# Altium integrated library Maxim Microcontroller.IntLib: 169 symbols (part 5 of 6)
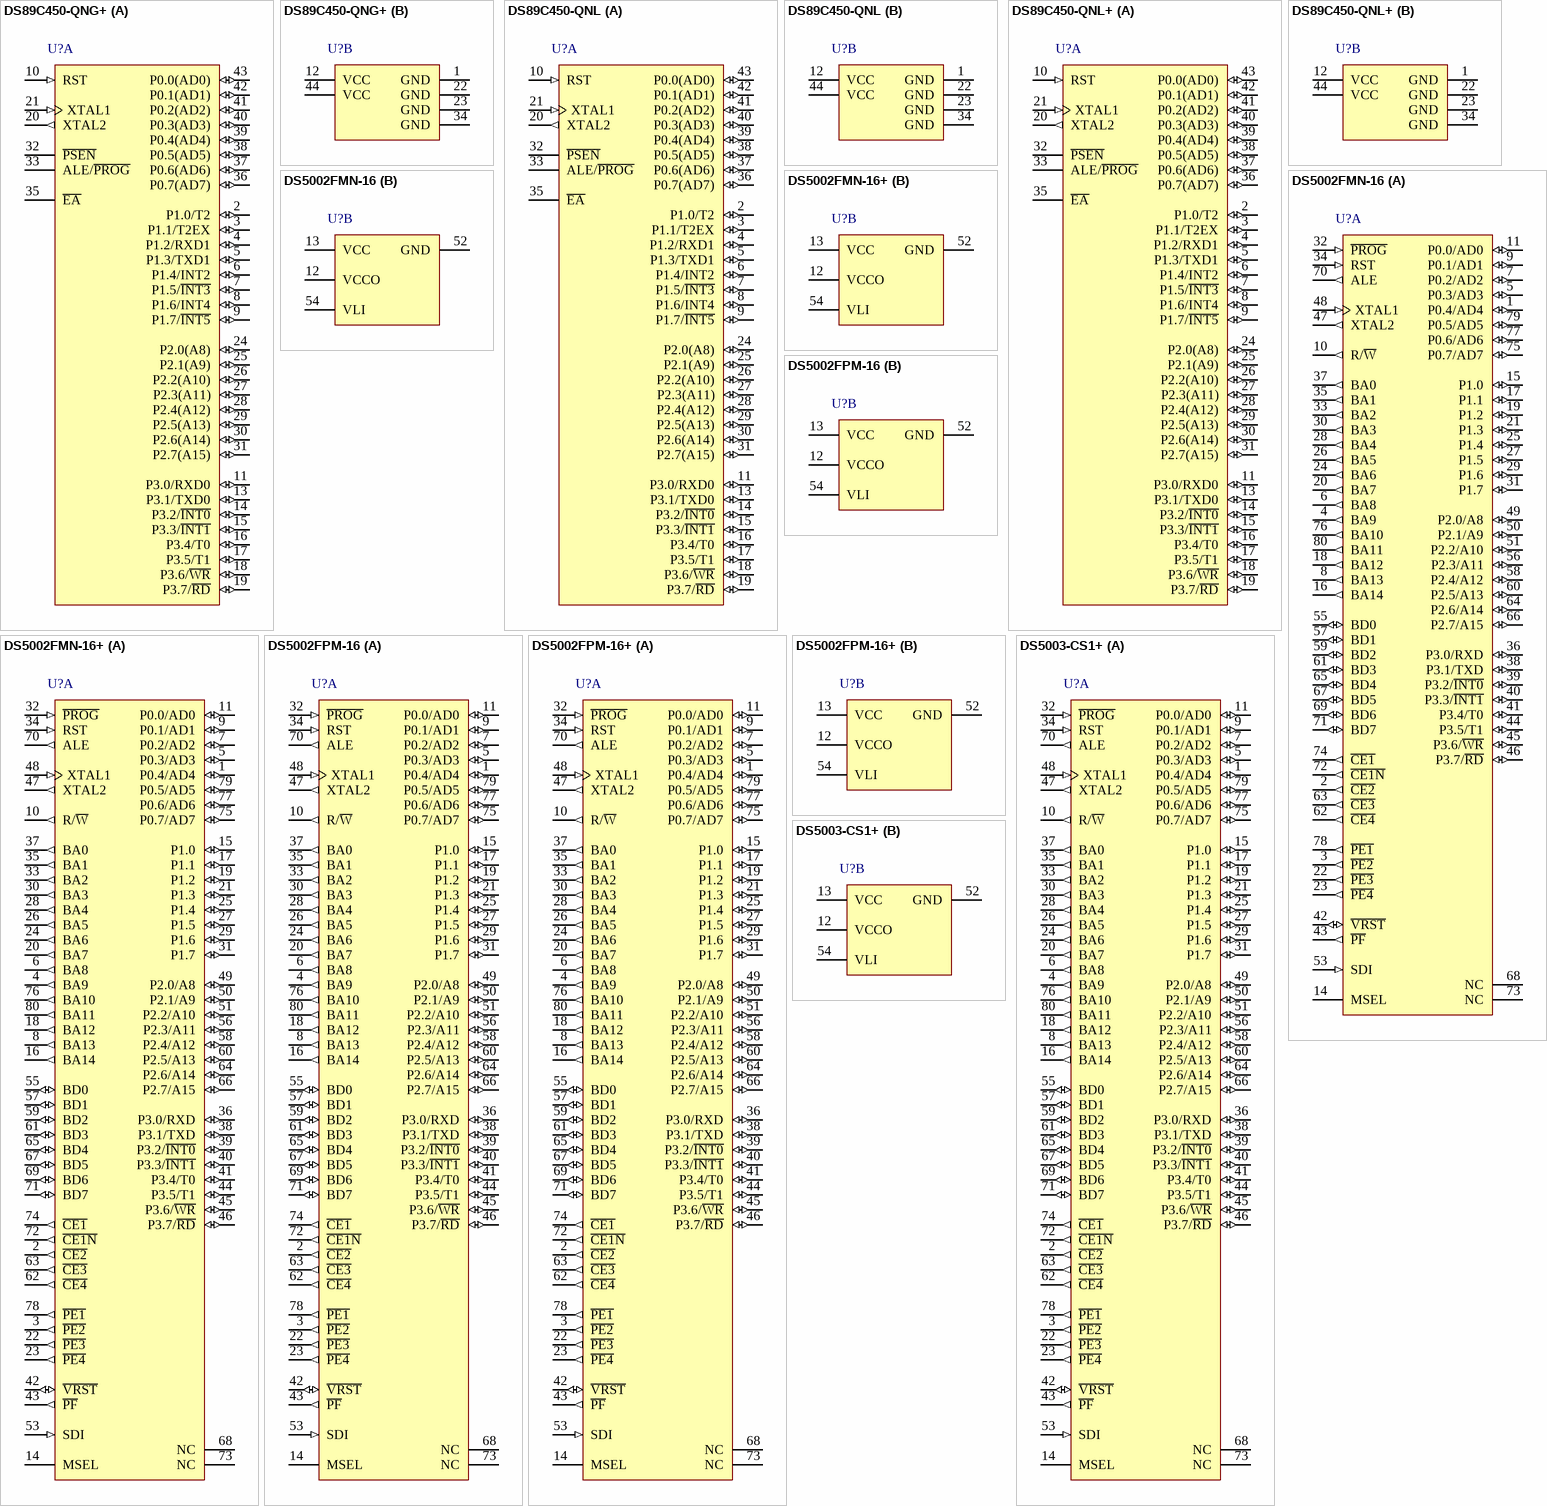
[diagram p28: symbols DS89C450-QNG+ to DS5003-CS1+]

## DS89C450-QNL
designator U?
8-bit Ultra-High-Speed Flash Microcontroller, 25 MHz Max. Clock Speed, 44-pin PLCC, -40° to + 85° C; DatasheetVersion: 1/05/2009; PackageVersion: revE, 2009; PackageReference: Q44-7; PackageDescription: 44-Pin Plastic Leaded Chip Carrier 1.27 mm Pitch, PLCC; Code_JEDEC: MO-047-AC; Code_IPC: PLCC-44; ComponentLink1Description: Manufacturer URL; ComponentLink1URL: www.maxim-ic.com; ComponentLink2Description: Datasheet; ComponentLink2URL: http://datasheets.maxim-ic.com/en/ds/DS89C430-DS89C450.pdf
footprint Q44-7_N (Leaded Chip Carrier, 44-Leads, Body 16.6x16.6mm, Pitch 1.27mm, IPC Medium Density)
footprint Q44-7_L (Leaded Chip Carrier, 44-Leads, Body 16.6x16.6mm, Pitch 1.27mm, IPC High Density)
footprint Q44-7_M (Leaded Chip Carrier, 44-Leads, Body 16.6x16.6mm, Pitch 1.27mm, IPC Low Density)
part A pins: 2 P1.0/T2 (io), 3 P1.1/T2EX (io), 4 P1.2/RXD1 (io), 5 P1.3/TXD1 (io), 6 P1.4/INT2 (io), 7 P1.5/~{INT3} (io), 8 P1.6/INT4 (io), 9 P1.7/~{INT5} (io), 10 RST (in), 11 P3.0/RXD0 (io), 13 P3.1/TXD0 (io), 14 P3.2/~{INT0} (io), 15 P3.3/~{INT1} (io), 16 P3.4/T0 (io), 17 P3.5/T1 (io), 18 P3.6/~{WR} (io), 19 P3.7/~{RD} (io), 20 XTAL2 (out), 21 XTAL1 (in), 24 P2.0(A8) (io), 25 P2.1(A9) (io), 26 P2.2(A10) (io), 27 P2.3(A11) (io), 28 P2.4(A12) (io), 29 P2.5(A13) (io), 30 P2.6(A14) (io), 31 P2.7(A15) (io), 32 ~{PSEN}, 33 ALE/~{PROG}, 35 ~{EA}, 36 P0.7(AD7) (io), 37 P0.6(AD6) (io), 38 P0.5(AD5) (io), 39 P0.4(AD4) (io), 40 P0.3(AD3) (io), 41 P0.2(AD2) (io), 42 P0.1(AD1) (io), 43 P0.0(AD0) (io)
part B pins: 1 GND (power), 12 VCC (power), 22 GND (power), 23 GND (power), 34 GND (power), 44 VCC (power)

## DS89C450-QNL+
designator U?
8-bit Ultra-High-Speed Flash Microcontroller, 25 MHz Max. Clock Speed, 44-pin PLCC, -40° to + 85° C, Pb-Free; DatasheetVersion: 1/05/2009; PackageVersion: revE, 2009; PackageReference: Q44+7; PackageDescription: 44-Pin Plastic Leaded Chip Carrier 1.27 mm Pitch, PLCC, Pb-Free; Code_JEDEC: MO-047-AC; Code_IPC: PLCC-44; ComponentLink1Description: Manufacturer URL; ComponentLink1URL: www.maxim-ic.com; ComponentLink2Description: Datasheet; ComponentLink2URL: http://datasheets.maxim-ic.com/en/ds/DS89C430-DS89C450.pdf
footprint Q44+7_N (Leaded Chip Carrier, 44-Leads, Body 16.6x16.6mm, Pitch 1.27mm, IPC Medium Density)
footprint Q44+7_L (Leaded Chip Carrier, 44-Leads, Body 16.6x16.6mm, Pitch 1.27mm, IPC High Density)
footprint Q44+7_M (Leaded Chip Carrier, 44-Leads, Body 16.6x16.6mm, Pitch 1.27mm, IPC Low Density)
part A pins: 2 P1.0/T2 (io), 3 P1.1/T2EX (io), 4 P1.2/RXD1 (io), 5 P1.3/TXD1 (io), 6 P1.4/INT2 (io), 7 P1.5/~{INT3} (io), 8 P1.6/INT4 (io), 9 P1.7/~{INT5} (io), 10 RST (in), 11 P3.0/RXD0 (io), 13 P3.1/TXD0 (io), 14 P3.2/~{INT0} (io), 15 P3.3/~{INT1} (io), 16 P3.4/T0 (io), 17 P3.5/T1 (io), 18 P3.6/~{WR} (io), 19 P3.7/~{RD} (io), 20 XTAL2 (out), 21 XTAL1 (in), 24 P2.0(A8) (io), 25 P2.1(A9) (io), 26 P2.2(A10) (io), 27 P2.3(A11) (io), 28 P2.4(A12) (io), 29 P2.5(A13) (io), 30 P2.6(A14) (io), 31 P2.7(A15) (io), 32 ~{PSEN}, 33 ALE/~{PROG}, 35 ~{EA}, 36 P0.7(AD7) (io), 37 P0.6(AD6) (io), 38 P0.5(AD5) (io), 39 P0.4(AD4) (io), 40 P0.3(AD3) (io), 41 P0.2(AD2) (io), 42 P0.1(AD1) (io), 43 P0.0(AD0) (io)
part B pins: 1 GND (power), 12 VCC (power), 22 GND (power), 23 GND (power), 34 GND (power), 44 VCC (power)

## DS5002FMN-16
designator U?
8-bit Secure Microprocessor Chip, 16 MHz Max. Clock Speed, 80-pin QFP, -40° to + 85° C; DatasheetVersion: 1/07/2006; PackageVersion: revB, 2009; PackageReference: M80-2; PackageDescription: 80-Pin Metric Quad Flatpack, 20 x 14 x 3 mm Body, 1.95 mm Form, MQFP; ComponentLink1Description: Manufacturer URL; ComponentLink1URL: www.maxim-ic.com; ComponentLink2Description: Datasheet; ComponentLink2URL: http://datasheets.maxim-ic.com/en/ds/DS5002-DS5002FP.pdf
footprint M80-2_N (QFP, 80-Leads, Body 20x14mm, Pitch 0.8mm, IPC Medium Density)
footprint M80-2_L (QFP, 80-Leads, Body 20x14mm, Pitch 0.8mm, IPC High Density)
footprint M80-2_M (QFP, 80-Leads, Body 20x14mm, Pitch 0.8mm, IPC Low Density)
part A pins: 1 P0.4/AD4 (io), 2 ~{CE2} (out), 3 ~{PE2} (out), 4 BA9 (out), 5 P0.3/AD3 (io), 6 BA8 (out), 7 P0.2/AD2 (io), 8 BA13 (out), 9 P0.1/AD1 (io), 10 R/~{W} (out), 11 P0.0/AD0 (io), 14 MSEL, 15 P1.0 (io), 16 BA14 (out), 17 P1.1 (io), 18 BA12 (out), 19 P1.2 (io), 20 BA7 (out), 21 P1.3 (io), 22 ~{PE3} (out), 23 ~{PE4} (out), 24 BA6 (out), 25 P1.4 (io), 26 BA5 (out), 27 P1.5 (io), 28 BA4 (out), 29 P1.6 (io), 30 BA3 (out), 31 P1.7 (io), 32 ~{PROG} (in), 33 BA2 (out), 34 RST (in), 35 BA1 (out), 36 P3.0/RXD (io), 37 BA0 (out), 38 P3.1/TXD (io), 39 P3.2/~{INT0} (io), 40 P3.3/~{INT1} (io), 41 P3.4/T0 (io), 42 ~{VRST} (io), 43 ~{PF} (out), 44 P3.5/T1 (io), 45 P3.6/~{WR} (io), 46 P3.7/~{RD} (io), 47 XTAL2 (out), 48 XTAL1 (in), 49 P2.0/A8 (io), 50 P2.1/A9 (io), 51 P2.2/A10 (io), 53 SDI (in), 55 BD0 (io), 56 P2.3/A11 (io), 57 BD1 (io), 58 P2.4/A12 (io), 59 BD2 (io), 60 P2.5/A13 (io), 61 BD3 (io), 62 ~{CE4} (out), 63 ~{CE3} (out), 64 P2.6/A14 (io), 65 BD4 (io), 66 P2.7/A15 (io), 67 BD5 (io), 68 NC, 69 BD6 (io), 70 ALE (out), 71 BD7 (io), 72 ~{CE1N} (out), 73 NC, 74 ~{CE1} (out), 75 P0.7/AD7 (io), 76 BA10 (out), 77 P0.6/AD6 (io), 78 ~{PE1} (out), 79 P0.5/AD5 (io), 80 BA11 (out)
part B pins: 12 VCCO (power), 13 VCC (power), 52 GND (power), 54 VLI (power)

## DS5002FMN-16+
designator U?
8-bit Secure Microprocessor Chip, 16 MHz Max. Clock Speed, 80-pin QFP, -40° to + 85° C, Pb-Free; DatasheetVersion: 1/07/2006; PackageVersion: revB, 2009; PackageReference: M80+2; PackageDescription: 80-Pin Metric Quad Flatpack, 20 x 14 x 3 mm Body, 1.95 mm Form, MQFP, Pb-Free; ComponentLink1Description: Manufacturer URL; ComponentLink1URL: www.maxim-ic.com; ComponentLink2Description: Datasheet; ComponentLink2URL: http://datasheets.maxim-ic.com/en/ds/DS5002-DS5002FP.pdf
footprint M80+2_N (QFP, 80-Leads, Body 20x14mm, Pitch 0.8mm, IPC Medium Density)
footprint M80+2_L (QFP, 80-Leads, Body 20x14mm, Pitch 0.8mm, IPC High Density)
footprint M80+2_M (QFP, 80-Leads, Body 20x14mm, Pitch 0.8mm, IPC Low Density)
part A pins: 1 P0.4/AD4 (io), 2 ~{CE2} (out), 3 ~{PE2} (out), 4 BA9 (out), 5 P0.3/AD3 (io), 6 BA8 (out), 7 P0.2/AD2 (io), 8 BA13 (out), 9 P0.1/AD1 (io), 10 R/~{W} (out), 11 P0.0/AD0 (io), 14 MSEL, 15 P1.0 (io), 16 BA14 (out), 17 P1.1 (io), 18 BA12 (out), 19 P1.2 (io), 20 BA7 (out), 21 P1.3 (io), 22 ~{PE3} (out), 23 ~{PE4} (out), 24 BA6 (out), 25 P1.4 (io), 26 BA5 (out), 27 P1.5 (io), 28 BA4 (out), 29 P1.6 (io), 30 BA3 (out), 31 P1.7 (io), 32 ~{PROG} (in), 33 BA2 (out), 34 RST (in), 35 BA1 (out), 36 P3.0/RXD (io), 37 BA0 (out), 38 P3.1/TXD (io), 39 P3.2/~{INT0} (io), 40 P3.3/~{INT1} (io), 41 P3.4/T0 (io), 42 ~{VRST} (io), 43 ~{PF} (out), 44 P3.5/T1 (io), 45 P3.6/~{WR} (io), 46 P3.7/~{RD} (io), 47 XTAL2 (out), 48 XTAL1 (in), 49 P2.0/A8 (io), 50 P2.1/A9 (io), 51 P2.2/A10 (io), 53 SDI (in), 55 BD0 (io), 56 P2.3/A11 (io), 57 BD1 (io), 58 P2.4/A12 (io), 59 BD2 (io), 60 P2.5/A13 (io), 61 BD3 (io), 62 ~{CE4} (out), 63 ~{CE3} (out), 64 P2.6/A14 (io), 65 BD4 (io), 66 P2.7/A15 (io), 67 BD5 (io), 68 NC, 69 BD6 (io), 70 ALE (out), 71 BD7 (io), 72 ~{CE1N} (out), 73 NC, 74 ~{CE1} (out), 75 P0.7/AD7 (io), 76 BA10 (out), 77 P0.6/AD6 (io), 78 ~{PE1} (out), 79 P0.5/AD5 (io), 80 BA11 (out)
part B pins: 12 VCCO (power), 13 VCC (power), 52 GND (power), 54 VLI (power)

## DS5002FPM-16
designator U?
8-bit Secure Microprocessor Chip, 16 MHz Max. Clock Speed, 80-pin QFP, 0° to + 70° C; DatasheetVersion: 1/07/2006; PackageVersion: revB, 2009; PackageReference: M80-1; PackageDescription: 80-Pin Metric Quad Flatpack, 20 x 14 x 3 mm Body, 1.95 mm Form, MQFP; ComponentLink1Description: Manufacturer URL; ComponentLink1URL: www.maxim-ic.com; ComponentLink2Description: Datasheet; ComponentLink2URL: http://datasheets.maxim-ic.com/en/ds/DS5002-DS5002FP.pdf
footprint M80-1_N (QFP, 80-Leads, Body 20x14mm, Pitch 0.8mm, IPC Medium Density)
footprint M80-1_L (QFP, 80-Leads, Body 20x14mm, Pitch 0.8mm, IPC High Density)
footprint M80-1_M (QFP, 80-Leads, Body 20x14mm, Pitch 0.8mm, IPC Low Density)
part A pins: 1 P0.4/AD4 (io), 2 ~{CE2} (out), 3 ~{PE2} (out), 4 BA9 (out), 5 P0.3/AD3 (io), 6 BA8 (out), 7 P0.2/AD2 (io), 8 BA13 (out), 9 P0.1/AD1 (io), 10 R/~{W} (out), 11 P0.0/AD0 (io), 14 MSEL, 15 P1.0 (io), 16 BA14 (out), 17 P1.1 (io), 18 BA12 (out), 19 P1.2 (io), 20 BA7 (out), 21 P1.3 (io), 22 ~{PE3} (out), 23 ~{PE4} (out), 24 BA6 (out), 25 P1.4 (io), 26 BA5 (out), 27 P1.5 (io), 28 BA4 (out), 29 P1.6 (io), 30 BA3 (out), 31 P1.7 (io), 32 ~{PROG} (in), 33 BA2 (out), 34 RST (in), 35 BA1 (out), 36 P3.0/RXD (io), 37 BA0 (out), 38 P3.1/TXD (io), 39 P3.2/~{INT0} (io), 40 P3.3/~{INT1} (io), 41 P3.4/T0 (io), 42 ~{VRST} (io), 43 ~{PF} (out), 44 P3.5/T1 (io), 45 P3.6/~{WR} (io), 46 P3.7/~{RD} (io), 47 XTAL2 (out), 48 XTAL1 (in), 49 P2.0/A8 (io), 50 P2.1/A9 (io), 51 P2.2/A10 (io), 53 SDI (in), 55 BD0 (io), 56 P2.3/A11 (io), 57 BD1 (io), 58 P2.4/A12 (io), 59 BD2 (io), 60 P2.5/A13 (io), 61 BD3 (io), 62 ~{CE4} (out), 63 ~{CE3} (out), 64 P2.6/A14 (io), 65 BD4 (io), 66 P2.7/A15 (io), 67 BD5 (io), 68 NC, 69 BD6 (io), 70 ALE (out), 71 BD7 (io), 72 ~{CE1N} (out), 73 NC, 74 ~{CE1} (out), 75 P0.7/AD7 (io), 76 BA10 (out), 77 P0.6/AD6 (io), 78 ~{PE1} (out), 79 P0.5/AD5 (io), 80 BA11 (out)
part B pins: 12 VCCO (power), 13 VCC (power), 52 GND (power), 54 VLI (power)

## DS5002FPM-16+
designator U?
8-bit Secure Microprocessor Chip, 16 MHz Max. Clock Speed, 80-pin QFP, 0° to + 70° C, Pb-Free; DatasheetVersion: 1/07/2006; PackageVersion: revB, 2009; PackageReference: M80+2; PackageDescription: 80-Pin Metric Quad Flatpack, 20 x 14 x 3 mm Body, 1.95 mm Form, MQFP, Pb-Free; ComponentLink1Description: Manufacturer URL; ComponentLink1URL: www.maxim-ic.com; ComponentLink2Description: Datasheet; ComponentLink2URL: http://datasheets.maxim-ic.com/en/ds/DS5002-DS5002FP.pdf
footprint M80+2_N (QFP, 80-Leads, Body 20x14mm, Pitch 0.8mm, IPC Medium Density)
footprint M80+2_L (QFP, 80-Leads, Body 20x14mm, Pitch 0.8mm, IPC High Density)
footprint M80+2_M (QFP, 80-Leads, Body 20x14mm, Pitch 0.8mm, IPC Low Density)
part A pins: 1 P0.4/AD4 (io), 2 ~{CE2} (out), 3 ~{PE2} (out), 4 BA9 (out), 5 P0.3/AD3 (io), 6 BA8 (out), 7 P0.2/AD2 (io), 8 BA13 (out), 9 P0.1/AD1 (io), 10 R/~{W} (out), 11 P0.0/AD0 (io), 14 MSEL, 15 P1.0 (io), 16 BA14 (out), 17 P1.1 (io), 18 BA12 (out), 19 P1.2 (io), 20 BA7 (out), 21 P1.3 (io), 22 ~{PE3} (out), 23 ~{PE4} (out), 24 BA6 (out), 25 P1.4 (io), 26 BA5 (out), 27 P1.5 (io), 28 BA4 (out), 29 P1.6 (io), 30 BA3 (out), 31 P1.7 (io), 32 ~{PROG} (in), 33 BA2 (out), 34 RST (in), 35 BA1 (out), 36 P3.0/RXD (io), 37 BA0 (out), 38 P3.1/TXD (io), 39 P3.2/~{INT0} (io), 40 P3.3/~{INT1} (io), 41 P3.4/T0 (io), 42 ~{VRST} (io), 43 ~{PF} (out), 44 P3.5/T1 (io), 45 P3.6/~{WR} (io), 46 P3.7/~{RD} (io), 47 XTAL2 (out), 48 XTAL1 (in), 49 P2.0/A8 (io), 50 P2.1/A9 (io), 51 P2.2/A10 (io), 53 SDI (in), 55 BD0 (io), 56 P2.3/A11 (io), 57 BD1 (io), 58 P2.4/A12 (io), 59 BD2 (io), 60 P2.5/A13 (io), 61 BD3 (io), 62 ~{CE4} (out), 63 ~{CE3} (out), 64 P2.6/A14 (io), 65 BD4 (io), 66 P2.7/A15 (io), 67 BD5 (io), 68 NC, 69 BD6 (io), 70 ALE (out), 71 BD7 (io), 72 ~{CE1N} (out), 73 NC, 74 ~{CE1} (out), 75 P0.7/AD7 (io), 76 BA10 (out), 77 P0.6/AD6 (io), 78 ~{PE1} (out), 79 P0.5/AD5 (io), 80 BA11 (out)
part B pins: 12 VCCO (power), 13 VCC (power), 52 GND (power), 54 VLI (power)

## DS5003-CS1+
designator U?
8-bit Secure Microprocessor Chip, 16 MHz Max. Clock Speed, 80-pin MQFP, 0° to + 70° C, Pb-Free; DatasheetVersion: 1/03/2008; PackageVersion: revB, 2009; PackageReference: M80+2; PackageDescription: 80-Pin Metric Quad Flatpack, 20 x 14 x 3 mm Body, 1.95 mm Form, MQFP, Pb-Free; ComponentLink1Description: Manufacturer URL; ComponentLink1URL: www.maxim-ic.com; ComponentLink2Description: Datasheet; ComponentLink2URL: http://datasheets.maxim-ic.com/en/ds/DS5003.pdf
footprint M80+2_N (QFP, 80-Leads, Body 20x14mm, Pitch 0.8mm, IPC Medium Density)
footprint M80+2_L (QFP, 80-Leads, Body 20x14mm, Pitch 0.8mm, IPC High Density)
footprint M80+2_M (QFP, 80-Leads, Body 20x14mm, Pitch 0.8mm, IPC Low Density)
part A pins: 1 P0.4/AD4 (io), 2 ~{CE2} (out), 3 ~{PE2} (out), 4 BA9 (out), 5 P0.3/AD3 (io), 6 BA8 (out), 7 P0.2/AD2 (io), 8 BA13 (out), 9 P0.1/AD1 (io), 10 R/~{W} (out), 11 P0.0/AD0 (io), 14 MSEL, 15 P1.0 (io), 16 BA14 (out), 17 P1.1 (io), 18 BA12 (out), 19 P1.2 (io), 20 BA7 (out), 21 P1.3 (io), 22 ~{PE3} (out), 23 ~{PE4} (out), 24 BA6 (out), 25 P1.4 (io), 26 BA5 (out), 27 P1.5 (io), 28 BA4 (out), 29 P1.6 (io), 30 BA3 (out), 31 P1.7 (io), 32 ~{PROG} (in), 33 BA2 (out), 34 RST (in), 35 BA1 (out), 36 P3.0/RXD (io), 37 BA0 (out), 38 P3.1/TXD (io), 39 P3.2/~{INT0} (io), 40 P3.3/~{INT1} (io), 41 P3.4/T0 (io), 42 ~{VRST} (io), 43 ~{PF} (out), 44 P3.5/T1 (io), 45 P3.6/~{WR} (io), 46 P3.7/~{RD} (io), 47 XTAL2 (out), 48 XTAL1 (in), 49 P2.0/A8 (io), 50 P2.1/A9 (io), 51 P2.2/A10 (io), 53 SDI (in), 55 BD0 (io), 56 P2.3/A11 (io), 57 BD1 (io), 58 P2.4/A12 (io), 59 BD2 (io), 60 P2.5/A13 (io), 61 BD3 (io), 62 ~{CE4} (out), 63 ~{CE3} (out), 64 P2.6/A14 (io), 65 BD4 (io), 66 P2.7/A15 (io), 67 BD5 (io), 68 NC, 69 BD6 (io), 70 ALE (out), 71 BD7 (io), 72 ~{CE1N} (out), 73 NC, 74 ~{CE1} (out), 75 P0.7/AD7 (io), 76 BA10 (out), 77 P0.6/AD6 (io), 78 ~{PE1} (out), 79 P0.5/AD5 (io), 80 BA11 (out)
part B pins: 12 VCCO (power), 13 VCC (power), 52 GND (power), 54 VLI (power)

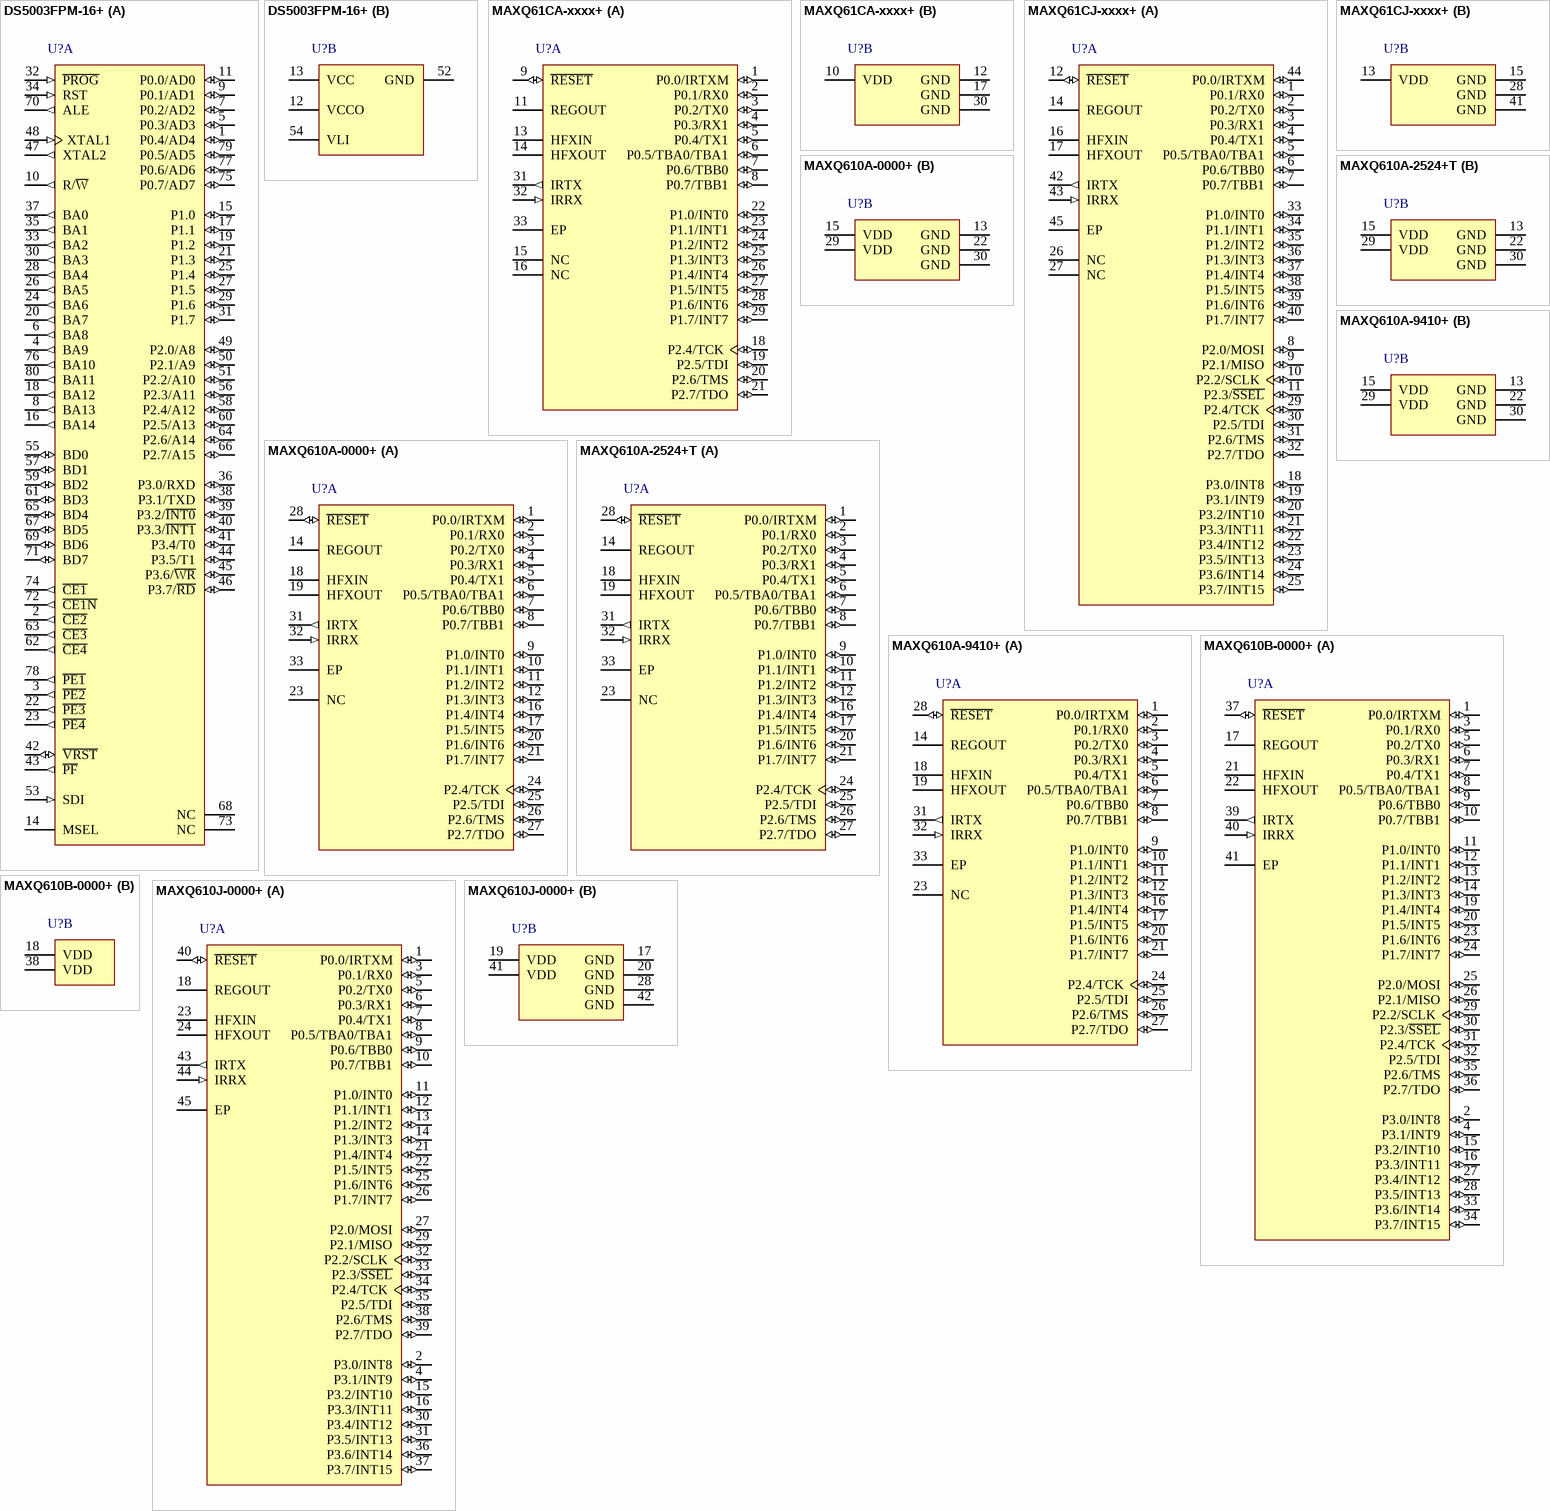
[diagram p17: symbols DS5003FPM-16+ to MAXQ610J-0000+]

## DS5003FPM-16+
designator U?
8-bit Secure Microprocessor Chip, 16 MHz Max. Clock Speed, 80-pin MQFP, 0° to + 70° C, Pb-Free; DatasheetVersion: 1/03/2008; PackageVersion: revB, 2009; PackageReference: M80+2; PackageDescription: 80-Pin Metric Quad Flatpack, 20 x 14 x 3 mm Body, 1.95 mm Form, MQFP, Pb-Free; ComponentLink1Description: Manufacturer URL; ComponentLink1URL: www.maxim-ic.com; ComponentLink2Description: Datasheet; ComponentLink2URL: http://datasheets.maxim-ic.com/en/ds/DS5003.pdf
footprint M80+2_N (QFP, 80-Leads, Body 20x14mm, Pitch 0.8mm, IPC Medium Density)
footprint M80+2_L (QFP, 80-Leads, Body 20x14mm, Pitch 0.8mm, IPC High Density)
footprint M80+2_M (QFP, 80-Leads, Body 20x14mm, Pitch 0.8mm, IPC Low Density)
part A pins: 1 P0.4/AD4 (io), 2 ~{CE2} (out), 3 ~{PE2} (out), 4 BA9 (out), 5 P0.3/AD3 (io), 6 BA8 (out), 7 P0.2/AD2 (io), 8 BA13 (out), 9 P0.1/AD1 (io), 10 R/~{W} (out), 11 P0.0/AD0 (io), 14 MSEL, 15 P1.0 (io), 16 BA14 (out), 17 P1.1 (io), 18 BA12 (out), 19 P1.2 (io), 20 BA7 (out), 21 P1.3 (io), 22 ~{PE3} (out), 23 ~{PE4} (out), 24 BA6 (out), 25 P1.4 (io), 26 BA5 (out), 27 P1.5 (io), 28 BA4 (out), 29 P1.6 (io), 30 BA3 (out), 31 P1.7 (io), 32 ~{PROG} (in), 33 BA2 (out), 34 RST (in), 35 BA1 (out), 36 P3.0/RXD (io), 37 BA0 (out), 38 P3.1/TXD (io), 39 P3.2/~{INT0} (io), 40 P3.3/~{INT1} (io), 41 P3.4/T0 (io), 42 ~{VRST} (io), 43 ~{PF} (out), 44 P3.5/T1 (io), 45 P3.6/~{WR} (io), 46 P3.7/~{RD} (io), 47 XTAL2 (out), 48 XTAL1 (in), 49 P2.0/A8 (io), 50 P2.1/A9 (io), 51 P2.2/A10 (io), 53 SDI (in), 55 BD0 (io), 56 P2.3/A11 (io), 57 BD1 (io), 58 P2.4/A12 (io), 59 BD2 (io), 60 P2.5/A13 (io), 61 BD3 (io), 62 ~{CE4} (out), 63 ~{CE3} (out), 64 P2.6/A14 (io), 65 BD4 (io), 66 P2.7/A15 (io), 67 BD5 (io), 68 NC, 69 BD6 (io), 70 ALE (out), 71 BD7 (io), 72 ~{CE1N} (out), 73 NC, 74 ~{CE1} (out), 75 P0.7/AD7 (io), 76 BA10 (out), 77 P0.6/AD6 (io), 78 ~{PE1} (out), 79 P0.5/AD5 (io), 80 BA11 (out)
part B pins: 12 VCCO (power), 13 VCC (power), 52 GND (power), 54 VLI (power)

## MAXQ61CA-xxxx+
designator U?
16-bit Microcontroller with Infrared Module, 12 MHz Max. Clock Speed, 32-pin TQFN, 0° to + 70° C, Pb-Free; DatasheetVersion: 1/01/2011; PackageVersion: revO, 2011; PackageReference: T3255+3; PackageDescription: 32-Pin Thin Quad Flatpack, No Leads, 5 x 5 x 0.75 mm Body, 0.5 mm Pitch, TQFN, Pb-Free; Code_JEDEC: MO-220-WHHD-2; ComponentLink1Description: Manufacturer URL; ComponentLink1URL: www.maxim-ic.com; ComponentLink2Description: Datasheet; ComponentLink2URL: http://datasheets.maxim-ic.com/en/ds/MAXQ61C.pdf
footprint T3255+3_N (QFN, 32-Leads, Body 5x5mm, Pitch 0.5mm, Thermal Pad 3.2x3.2mm, IPC Medium Density)
footprint T3255+3_L (QFN, 32-Leads, Body 5x5mm, Pitch 0.5mm, Thermal Pad 3.2x3.2mm, IPC High Density)
footprint T3255+3_M (QFN, 32-Leads, Body 5x5mm, Pitch 0.5mm, Thermal Pad 3.2x3.2mm, IPC Low Density)
part A pins: 1 P0.0/IRTXM (io), 2 P0.1/RX0 (io), 3 P0.2/TX0 (io), 4 P0.3/RX1 (io), 5 P0.4/TX1 (io), 6 P0.5/TBA0/TBA1 (io), 7 P0.6/TBB0 (io), 8 P0.7/TBB1 (io), 9 ~{RESET} (io), 11 REGOUT, 13 HFXIN, 14 HFXOUT, 15 NC, 16 NC, 18 P2.4/TCK (io), 19 P2.5/TDI (io), 20 P2.6/TMS (io), 21 P2.7/TDO (io), 22 P1.0/INT0 (io), 23 P1.1/INT1 (io), 24 P1.2/INT2 (io), 25 P1.3/INT3 (io), 26 P1.4/INT4 (io), 27 P1.5/INT5 (io), 28 P1.6/INT6 (io), 29 P1.7/INT7 (io), 31 IRTX (out), 32 IRRX (in), 33 EP
part B pins: 10 VDD (power), 12 GND (power), 17 GND (power), 30 GND (power)

## MAXQ61CJ-xxxx+
designator U?
16-bit Microcontroller with Infrared Module, 12 MHz Max. Clock Speed, 44-pin TQFN, 0° to + 70° C, Pb-Free; DatasheetVersion: 1/01/2011; PackageVersion: revI, 2009; PackageReference: T4477+2; PackageDescription: 44-Pin Thin Quad Flatpack, No Leads, 7 x 7 x 0.75 mm Body, 0.5 mm Pitch, TQFN, Pb-Free; Code_JEDEC: MO-220-WKKD-1; ComponentLink1Description: Manufacturer URL; ComponentLink1URL: www.maxim-ic.com; ComponentLink2Description: Datasheet; ComponentLink2URL: http://datasheets.maxim-ic.com/en/ds/MAXQ61C.pdf
footprint T4477+2_N (QFN, 44-Leads, Body 7x7mm, Pitch 0.5mm, Thermal Pad 4.9x4.9mm, IPC Medium Density)
footprint T4477+2_L (QFN, 44-Leads, Body 7x7mm, Pitch 0.5mm, Thermal Pad 4.9x4.9mm, IPC High Density)
footprint T4477+2_M (QFN, 44-Leads, Body 7x7mm, Pitch 0.5mm, Thermal Pad 4.9x4.9mm, IPC Low Density)
part A pins: 1 P0.1/RX0 (io), 2 P0.2/TX0 (io), 3 P0.3/RX1 (io), 4 P0.4/TX1 (io), 5 P0.5/TBA0/TBA1 (io), 6 P0.6/TBB0 (io), 7 P0.7/TBB1 (io), 8 P2.0/MOSI (io), 9 P2.1/MISO (io), 10 P2.2/SCLK (io), 11 P2.3/~{SSEL} (io), 12 ~{RESET} (io), 14 REGOUT, 16 HFXIN, 17 HFXOUT, 18 P3.0/INT8 (io), 19 P3.1/INT9 (io), 20 P3.2/INT10 (io), 21 P3.3/INT11 (io), 22 P3.4/INT12 (io), 23 P3.5/INT13 (io), 24 P3.6/INT14 (io), 25 P3.7/INT15 (io), 26 NC, 27 NC, 29 P2.4/TCK (io), 30 P2.5/TDI (io), 31 P2.6/TMS (io), 32 P2.7/TDO (io), 33 P1.0/INT0 (io), 34 P1.1/INT1 (io), 35 P1.2/INT2 (io), 36 P1.3/INT3 (io), 37 P1.4/INT4 (io), 38 P1.5/INT5 (io), 39 P1.6/INT6 (io), 40 P1.7/INT7 (io), 42 IRTX (out), 43 IRRX (in), 44 P0.0/IRTXM (io), 45 EP
part B pins: 13 VDD (power), 15 GND (power), 28 GND (power), 41 GND (power)

## MAXQ610A-0000+
designator U?
16-bit Microcontroller with Infrared Module, 12 MHz Max. Clock Speed, 32-pin TQFN, 0° to + 70° C, Pb-Free; DatasheetVersion: 1/02/2010; PackageVersion: revO, 2011; PackageReference: T3255+3; PackageDescription: 32-Pin Thin Quad Flatpack, No Leads, 5 x 5 x 0.75 mm Body, 0.5 mm Pitch, TQFN, Pb-Free; Code_JEDEC: MO-220-WHHD-2; ComponentLink1Description: Manufacturer URL; ComponentLink1URL: www.maxim-ic.com; ComponentLink2Description: Datasheet; ComponentLink2URL: http://datasheets.maxim-ic.com/en/ds/MAXQ610.pdf
footprint T3255+3_N (QFN, 32-Leads, Body 5x5mm, Pitch 0.5mm, Thermal Pad 3.2x3.2mm, IPC Medium Density)
footprint T3255+3_L (QFN, 32-Leads, Body 5x5mm, Pitch 0.5mm, Thermal Pad 3.2x3.2mm, IPC High Density)
footprint T3255+3_M (QFN, 32-Leads, Body 5x5mm, Pitch 0.5mm, Thermal Pad 3.2x3.2mm, IPC Low Density)
part A pins: 1 P0.0/IRTXM (io), 2 P0.1/RX0 (io), 3 P0.2/TX0 (io), 4 P0.3/RX1 (io), 5 P0.4/TX1 (io), 6 P0.5/TBA0/TBA1 (io), 7 P0.6/TBB0 (io), 8 P0.7/TBB1 (io), 9 P1.0/INT0 (io), 10 P1.1/INT1 (io), 11 P1.2/INT2 (io), 12 P1.3/INT3 (io), 14 REGOUT, 16 P1.4/INT4 (io), 17 P1.5/INT5 (io), 18 HFXIN, 19 HFXOUT, 20 P1.6/INT6 (io), 21 P1.7/INT7 (io), 23 NC, 24 P2.4/TCK (io), 25 P2.5/TDI (io), 26 P2.6/TMS (io), 27 P2.7/TDO (io), 28 ~{RESET} (io), 31 IRTX (out), 32 IRRX (in), 33 EP
part B pins: 13 GND (power), 15 VDD (power), 22 GND (power), 29 VDD (power), 30 GND (power)

## MAXQ610A-2524+T
designator U?
16-bit Microcontroller with Infrared Module, 12 MHz Max. Clock Speed, 32-pin TQFN, 0° to + 70° C, Pb-Free, Tape and Reel; DatasheetVersion: 1/02/2010; PackageVersion: revO, 2011; PackageReference: T3255+3; PackageDescription: 32-Pin Thin Quad Flatpack, No Leads, 5 x 5 x 0.75 mm Body, 0.5 mm Pitch, TQFN, Pb-Free; Code_JEDEC: MO-220-WHHD-2; ComponentLink1Description: Manufacturer URL; ComponentLink1URL: www.maxim-ic.com; ComponentLink2Description: Datasheet; ComponentLink2URL: http://datasheets.maxim-ic.com/en/ds/MAXQ610.pdf
footprint T3255+3_N (QFN, 32-Leads, Body 5x5mm, Pitch 0.5mm, Thermal Pad 3.2x3.2mm, IPC Medium Density)
footprint T3255+3_L (QFN, 32-Leads, Body 5x5mm, Pitch 0.5mm, Thermal Pad 3.2x3.2mm, IPC High Density)
footprint T3255+3_M (QFN, 32-Leads, Body 5x5mm, Pitch 0.5mm, Thermal Pad 3.2x3.2mm, IPC Low Density)
part A pins: 1 P0.0/IRTXM (io), 2 P0.1/RX0 (io), 3 P0.2/TX0 (io), 4 P0.3/RX1 (io), 5 P0.4/TX1 (io), 6 P0.5/TBA0/TBA1 (io), 7 P0.6/TBB0 (io), 8 P0.7/TBB1 (io), 9 P1.0/INT0 (io), 10 P1.1/INT1 (io), 11 P1.2/INT2 (io), 12 P1.3/INT3 (io), 14 REGOUT, 16 P1.4/INT4 (io), 17 P1.5/INT5 (io), 18 HFXIN, 19 HFXOUT, 20 P1.6/INT6 (io), 21 P1.7/INT7 (io), 23 NC, 24 P2.4/TCK (io), 25 P2.5/TDI (io), 26 P2.6/TMS (io), 27 P2.7/TDO (io), 28 ~{RESET} (io), 31 IRTX (out), 32 IRRX (in), 33 EP
part B pins: 13 GND (power), 15 VDD (power), 22 GND (power), 29 VDD (power), 30 GND (power)

## MAXQ610A-9410+
designator U?
16-bit Microcontroller with Infrared Module, 12 MHz Max. Clock Speed, 32-pin TQFN, 0° to + 70° C, Pb-Free; DatasheetVersion: 1/02/2010; PackageVersion: revO, 2011; PackageReference: T3255+3; PackageDescription: 32-Pin Thin Quad Flatpack, No Leads, 5 x 5 x 0.75 mm Body, 0.5 mm Pitch, TQFN, Pb-Free; Code_JEDEC: MO-220-WHHD-2; ComponentLink1Description: Manufacturer URL; ComponentLink1URL: www.maxim-ic.com; ComponentLink2Description: Datasheet; ComponentLink2URL: http://datasheets.maxim-ic.com/en/ds/MAXQ610.pdf
footprint T3255+3_N (QFN, 32-Leads, Body 5x5mm, Pitch 0.5mm, Thermal Pad 3.2x3.2mm, IPC Medium Density)
footprint T3255+3_L (QFN, 32-Leads, Body 5x5mm, Pitch 0.5mm, Thermal Pad 3.2x3.2mm, IPC High Density)
footprint T3255+3_M (QFN, 32-Leads, Body 5x5mm, Pitch 0.5mm, Thermal Pad 3.2x3.2mm, IPC Low Density)
part A pins: 1 P0.0/IRTXM (io), 2 P0.1/RX0 (io), 3 P0.2/TX0 (io), 4 P0.3/RX1 (io), 5 P0.4/TX1 (io), 6 P0.5/TBA0/TBA1 (io), 7 P0.6/TBB0 (io), 8 P0.7/TBB1 (io), 9 P1.0/INT0 (io), 10 P1.1/INT1 (io), 11 P1.2/INT2 (io), 12 P1.3/INT3 (io), 14 REGOUT, 16 P1.4/INT4 (io), 17 P1.5/INT5 (io), 18 HFXIN, 19 HFXOUT, 20 P1.6/INT6 (io), 21 P1.7/INT7 (io), 23 NC, 24 P2.4/TCK (io), 25 P2.5/TDI (io), 26 P2.6/TMS (io), 27 P2.7/TDO (io), 28 ~{RESET} (io), 31 IRTX (out), 32 IRRX (in), 33 EP
part B pins: 13 GND (power), 15 VDD (power), 22 GND (power), 29 VDD (power), 30 GND (power)

## MAXQ610B-0000+
designator U?
16-bit Microcontroller with Infrared Module, 12 MHz Max. Clock Speed, 40-pin TQFN, 0° to + 70° C, Pb-Free; DatasheetVersion: 1/02/2010; PackageVersion: revK, 2010; PackageReference: T4066+2; PackageDescription: 40-Pin Thin Quad Flatpack, No Leads, 6 x 6 x 0.75 mm Body, 0.5 mm Pitch, TQFN, Pb-Free; Code_JEDEC: MO-220-WJJD-2; ComponentLink1Description: Manufacturer URL; ComponentLink1URL: www.maxim-ic.com; ComponentLink2Description: Datasheet; ComponentLink2URL: http://datasheets.maxim-ic.com/en/ds/MAXQ610.pdf
footprint T4066+2_N (QFN, 40-Leads, Body 6x6mm, Pitch 0.5mm, Thermal Pad 4.2x4.2mm, IPC Medium Density)
footprint T4066+2_L (QFN, 40-Leads, Body 6x6mm, Pitch 0.5mm, Thermal Pad 4.2x4.2mm, IPC High Density)
footprint T4066+2_M (QFN, 40-Leads, Body 6x6mm, Pitch 0.5mm, Thermal Pad 4.2x4.2mm, IPC Low Density)
part A pins: 1 P0.0/IRTXM (io), 2 P3.0/INT8 (io), 3 P0.1/RX0 (io), 4 P3.1/INT9 (io), 5 P0.2/TX0 (io), 6 P0.3/RX1 (io), 7 P0.4/TX1 (io), 8 P0.5/TBA0/TBA1 (io), 9 P0.6/TBB0 (io), 10 P0.7/TBB1 (io), 11 P1.0/INT0 (io), 12 P1.1/INT1 (io), 13 P1.2/INT2 (io), 14 P1.3/INT3 (io), 15 P3.2/INT10 (io), 16 P3.3/INT11 (io), 17 REGOUT, 19 P1.4/INT4 (io), 20 P1.5/INT5 (io), 21 HFXIN, 22 HFXOUT, 23 P1.6/INT6 (io), 24 P1.7/INT7 (io), 25 P2.0/MOSI (io), 26 P2.1/MISO (io), 27 P3.4/INT12 (io), 28 P3.5/INT13 (io), 29 P2.2/SCLK (io), 30 P2.3/~{SSEL} (io), 31 P2.4/TCK (io), 32 P2.5/TDI (io), 33 P3.6/INT14 (io), 34 P3.7/INT15 (io), 35 P2.6/TMS (io), 36 P2.7/TDO (io), 37 ~{RESET} (io), 39 IRTX (out), 40 IRRX (in), 41 EP
part B pins: 18 VDD (power), 38 VDD (power)

## MAXQ610J-0000+
designator U?
16-bit Microcontroller with Infrared Module, 12 MHz Max. Clock Speed, 44-pin TQFN, 0° to + 70° C, Pb-Free; DatasheetVersion: 1/02/2010; PackageVersion: revI, 2009; PackageReference: T4477+2; PackageDescription: 44-Pin Thin Quad Flatpack, No Leads, 7 x 7 x 0.75 mm Body, 0.5 mm Pitch, TQFN, Pb-Free; Code_JEDEC: MO-220-WKKD-1; ComponentLink1Description: Manufacturer URL; ComponentLink1URL: www.maxim-ic.com; ComponentLink2Description: Datasheet; ComponentLink2URL: http://datasheets.maxim-ic.com/en/ds/MAXQ610.pdf
footprint T4477+2_N (QFN, 44-Leads, Body 7x7mm, Pitch 0.5mm, Thermal Pad 4.9x4.9mm, IPC Medium Density)
footprint T4477+2_L (QFN, 44-Leads, Body 7x7mm, Pitch 0.5mm, Thermal Pad 4.9x4.9mm, IPC High Density)
footprint T4477+2_M (QFN, 44-Leads, Body 7x7mm, Pitch 0.5mm, Thermal Pad 4.9x4.9mm, IPC Low Density)
part A pins: 1 P0.0/IRTXM (io), 2 P3.0/INT8 (io), 3 P0.1/RX0 (io), 4 P3.1/INT9 (io), 5 P0.2/TX0 (io), 6 P0.3/RX1 (io), 7 P0.4/TX1 (io), 8 P0.5/TBA0/TBA1 (io), 9 P0.6/TBB0 (io), 10 P0.7/TBB1 (io), 11 P1.0/INT0 (io), 12 P1.1/INT1 (io), 13 P1.2/INT2 (io), 14 P1.3/INT3 (io), 15 P3.2/INT10 (io), 16 P3.3/INT11 (io), 18 REGOUT, 21 P1.4/INT4 (io), 22 P1.5/INT5 (io), 23 HFXIN, 24 HFXOUT, 25 P1.6/INT6 (io), 26 P1.7/INT7 (io), 27 P2.0/MOSI (io), 29 P2.1/MISO (io), 30 P3.4/INT12 (io), 31 P3.5/INT13 (io), 32 P2.2/SCLK (io), 33 P2.3/~{SSEL} (io), 34 P2.4/TCK (io), 35 P2.5/TDI (io), 36 P3.6/INT14 (io), 37 P3.7/INT15 (io), 38 P2.6/TMS (io), 39 P2.7/TDO (io), 40 ~{RESET} (io), 43 IRTX (out), 44 IRRX (in), 45 EP
part B pins: 17 GND (power), 19 VDD (power), 20 GND (power), 28 GND (power), 41 VDD (power), 42 GND (power)

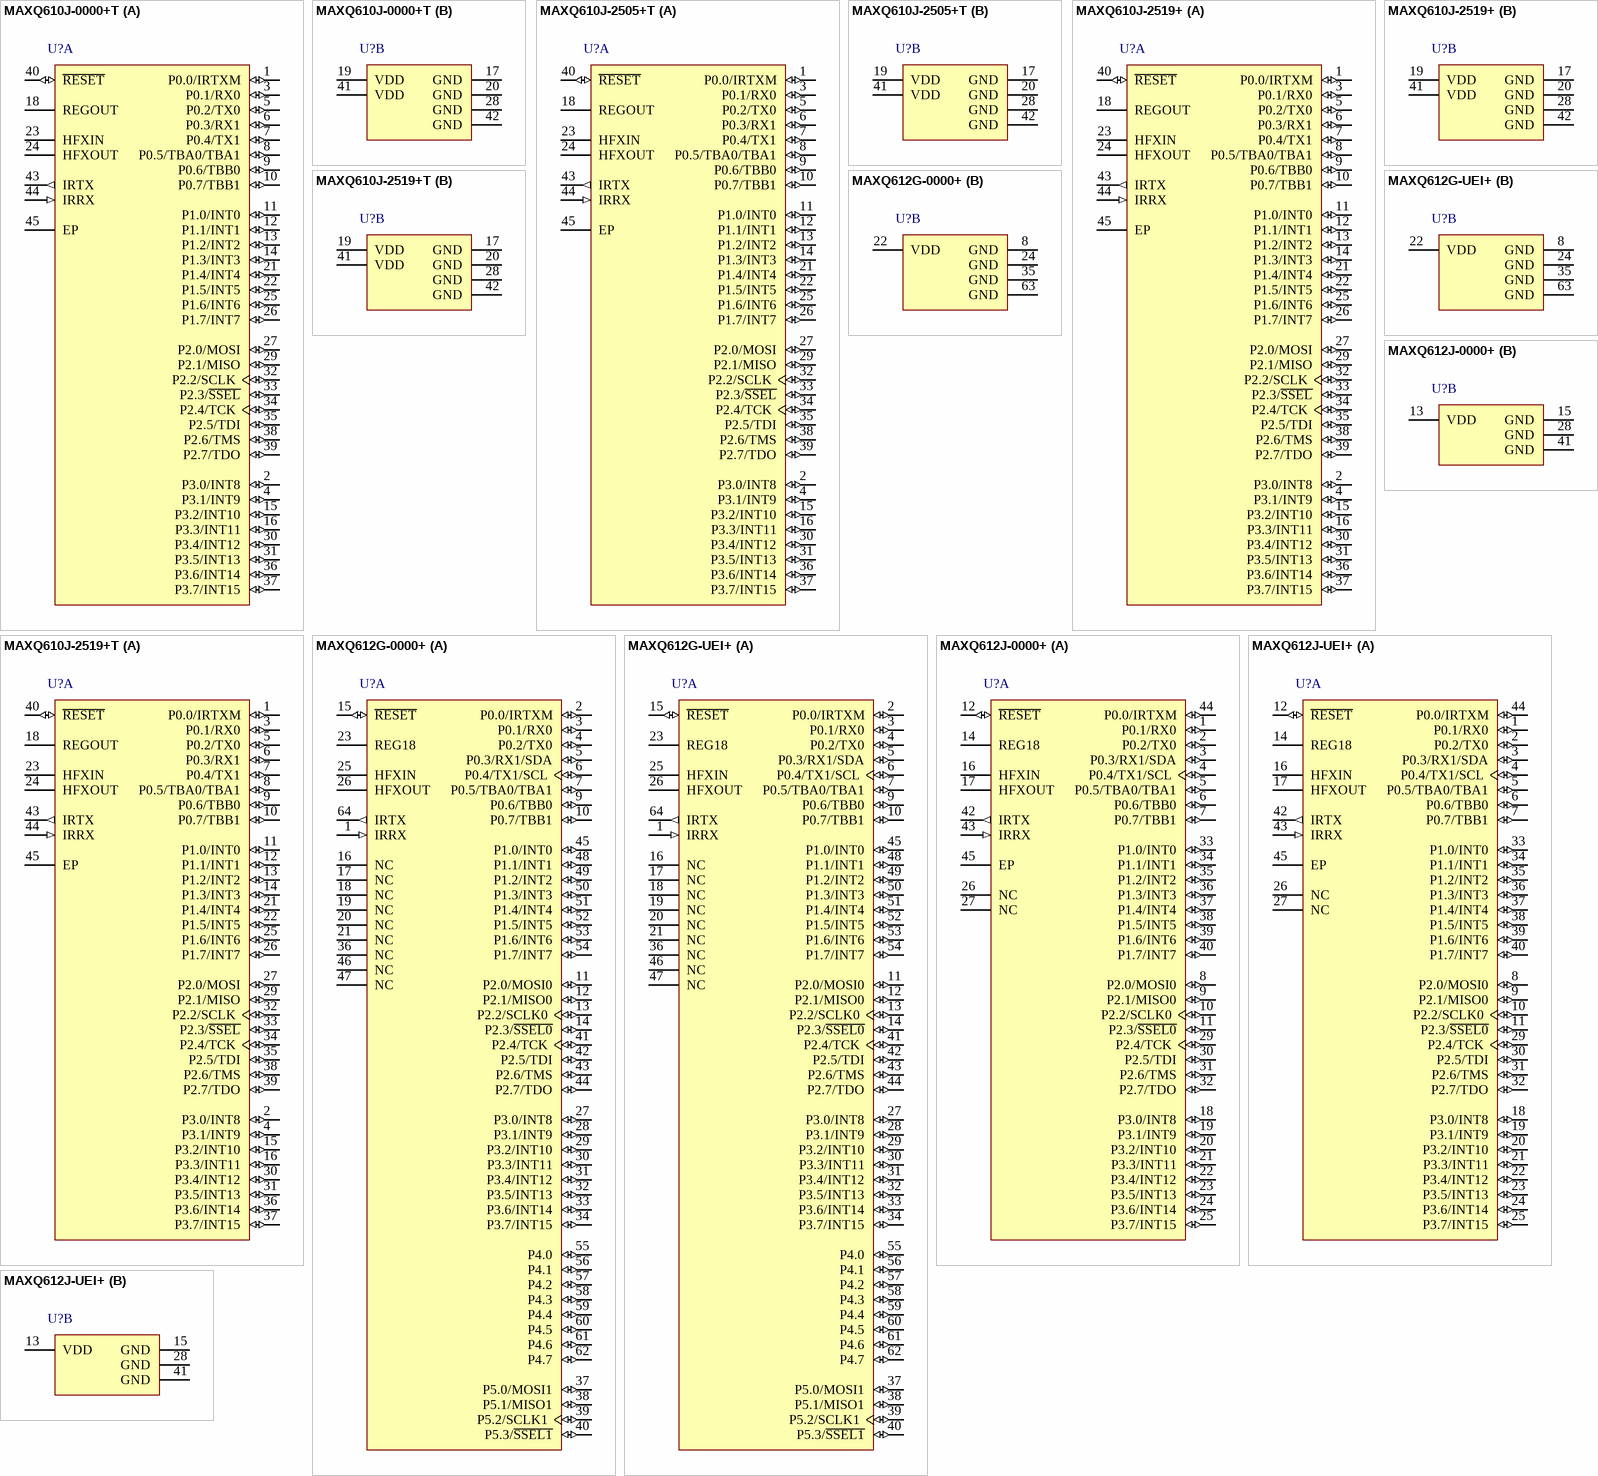
[diagram p18: symbols MAXQ610J-0000+T to MAXQ612J-UEI+]

## MAXQ610J-0000+T
designator U?
16-bit Microcontroller with Infrared Module, 12 MHz Max. Clock Speed, 44-pin TQFN, 0° to + 70° C, Pb-Free, Tape and Reel; DatasheetVersion: 1/02/2010; PackageVersion: revI, 2009; PackageReference: T4477+2; PackageDescription: 44-Pin Thin Quad Flatpack, No Leads, 7 x 7 x 0.75 mm Body, 0.5 mm Pitch, TQFN, Pb-Free; Code_JEDEC: MO-220-WKKD-1; ComponentLink1Description: Manufacturer URL; ComponentLink1URL: www.maxim-ic.com; ComponentLink2Description: Datasheet; ComponentLink2URL: http://datasheets.maxim-ic.com/en/ds/MAXQ610.pdf
footprint T4477+2_N (QFN, 44-Leads, Body 7x7mm, Pitch 0.5mm, Thermal Pad 4.9x4.9mm, IPC Medium Density)
footprint T4477+2_L (QFN, 44-Leads, Body 7x7mm, Pitch 0.5mm, Thermal Pad 4.9x4.9mm, IPC High Density)
footprint T4477+2_M (QFN, 44-Leads, Body 7x7mm, Pitch 0.5mm, Thermal Pad 4.9x4.9mm, IPC Low Density)
part A pins: 1 P0.0/IRTXM (io), 2 P3.0/INT8 (io), 3 P0.1/RX0 (io), 4 P3.1/INT9 (io), 5 P0.2/TX0 (io), 6 P0.3/RX1 (io), 7 P0.4/TX1 (io), 8 P0.5/TBA0/TBA1 (io), 9 P0.6/TBB0 (io), 10 P0.7/TBB1 (io), 11 P1.0/INT0 (io), 12 P1.1/INT1 (io), 13 P1.2/INT2 (io), 14 P1.3/INT3 (io), 15 P3.2/INT10 (io), 16 P3.3/INT11 (io), 18 REGOUT, 21 P1.4/INT4 (io), 22 P1.5/INT5 (io), 23 HFXIN, 24 HFXOUT, 25 P1.6/INT6 (io), 26 P1.7/INT7 (io), 27 P2.0/MOSI (io), 29 P2.1/MISO (io), 30 P3.4/INT12 (io), 31 P3.5/INT13 (io), 32 P2.2/SCLK (io), 33 P2.3/~{SSEL} (io), 34 P2.4/TCK (io), 35 P2.5/TDI (io), 36 P3.6/INT14 (io), 37 P3.7/INT15 (io), 38 P2.6/TMS (io), 39 P2.7/TDO (io), 40 ~{RESET} (io), 43 IRTX (out), 44 IRRX (in), 45 EP
part B pins: 17 GND (power), 19 VDD (power), 20 GND (power), 28 GND (power), 41 VDD (power), 42 GND (power)

## MAXQ610J-2505+T
designator U?
16-bit Microcontroller with Infrared Module, 12 MHz Max. Clock Speed, 44-pin TQFN, 0° to + 70° C, Pb-Free, Tape and Reel; DatasheetVersion: 1/02/2010; PackageVersion: revI, 2009; PackageReference: T4477+2; PackageDescription: 44-Pin Thin Quad Flatpack, No Leads, 7 x 7 x 0.75 mm Body, 0.5 mm Pitch, TQFN, Pb-Free; Code_JEDEC: MO-220-WKKD-1; ComponentLink1Description: Manufacturer URL; ComponentLink1URL: www.maxim-ic.com; ComponentLink2Description: Datasheet; ComponentLink2URL: http://datasheets.maxim-ic.com/en/ds/MAXQ610.pdf
footprint T4477+2_N (QFN, 44-Leads, Body 7x7mm, Pitch 0.5mm, Thermal Pad 4.9x4.9mm, IPC Medium Density)
footprint T4477+2_L (QFN, 44-Leads, Body 7x7mm, Pitch 0.5mm, Thermal Pad 4.9x4.9mm, IPC High Density)
footprint T4477+2_M (QFN, 44-Leads, Body 7x7mm, Pitch 0.5mm, Thermal Pad 4.9x4.9mm, IPC Low Density)
part A pins: 1 P0.0/IRTXM (io), 2 P3.0/INT8 (io), 3 P0.1/RX0 (io), 4 P3.1/INT9 (io), 5 P0.2/TX0 (io), 6 P0.3/RX1 (io), 7 P0.4/TX1 (io), 8 P0.5/TBA0/TBA1 (io), 9 P0.6/TBB0 (io), 10 P0.7/TBB1 (io), 11 P1.0/INT0 (io), 12 P1.1/INT1 (io), 13 P1.2/INT2 (io), 14 P1.3/INT3 (io), 15 P3.2/INT10 (io), 16 P3.3/INT11 (io), 18 REGOUT, 21 P1.4/INT4 (io), 22 P1.5/INT5 (io), 23 HFXIN, 24 HFXOUT, 25 P1.6/INT6 (io), 26 P1.7/INT7 (io), 27 P2.0/MOSI (io), 29 P2.1/MISO (io), 30 P3.4/INT12 (io), 31 P3.5/INT13 (io), 32 P2.2/SCLK (io), 33 P2.3/~{SSEL} (io), 34 P2.4/TCK (io), 35 P2.5/TDI (io), 36 P3.6/INT14 (io), 37 P3.7/INT15 (io), 38 P2.6/TMS (io), 39 P2.7/TDO (io), 40 ~{RESET} (io), 43 IRTX (out), 44 IRRX (in), 45 EP
part B pins: 17 GND (power), 19 VDD (power), 20 GND (power), 28 GND (power), 41 VDD (power), 42 GND (power)

## MAXQ610J-2519+
designator U?
16-bit Microcontroller with Infrared Module, 12 MHz Max. Clock Speed, 44-pin TQFN, 0° to + 70° C, Pb-Free; DatasheetVersion: 1/02/2010; PackageVersion: revI, 2009; PackageReference: T4477+2; PackageDescription: 44-Pin Thin Quad Flatpack, No Leads, 7 x 7 x 0.75 mm Body, 0.5 mm Pitch, TQFN, Pb-Free; Code_JEDEC: MO-220-WKKD-1; ComponentLink1Description: Manufacturer URL; ComponentLink1URL: www.maxim-ic.com; ComponentLink2Description: Datasheet; ComponentLink2URL: http://datasheets.maxim-ic.com/en/ds/MAXQ610.pdf
footprint T4477+2_N (QFN, 44-Leads, Body 7x7mm, Pitch 0.5mm, Thermal Pad 4.9x4.9mm, IPC Medium Density)
footprint T4477+2_L (QFN, 44-Leads, Body 7x7mm, Pitch 0.5mm, Thermal Pad 4.9x4.9mm, IPC High Density)
footprint T4477+2_M (QFN, 44-Leads, Body 7x7mm, Pitch 0.5mm, Thermal Pad 4.9x4.9mm, IPC Low Density)
part A pins: 1 P0.0/IRTXM (io), 2 P3.0/INT8 (io), 3 P0.1/RX0 (io), 4 P3.1/INT9 (io), 5 P0.2/TX0 (io), 6 P0.3/RX1 (io), 7 P0.4/TX1 (io), 8 P0.5/TBA0/TBA1 (io), 9 P0.6/TBB0 (io), 10 P0.7/TBB1 (io), 11 P1.0/INT0 (io), 12 P1.1/INT1 (io), 13 P1.2/INT2 (io), 14 P1.3/INT3 (io), 15 P3.2/INT10 (io), 16 P3.3/INT11 (io), 18 REGOUT, 21 P1.4/INT4 (io), 22 P1.5/INT5 (io), 23 HFXIN, 24 HFXOUT, 25 P1.6/INT6 (io), 26 P1.7/INT7 (io), 27 P2.0/MOSI (io), 29 P2.1/MISO (io), 30 P3.4/INT12 (io), 31 P3.5/INT13 (io), 32 P2.2/SCLK (io), 33 P2.3/~{SSEL} (io), 34 P2.4/TCK (io), 35 P2.5/TDI (io), 36 P3.6/INT14 (io), 37 P3.7/INT15 (io), 38 P2.6/TMS (io), 39 P2.7/TDO (io), 40 ~{RESET} (io), 43 IRTX (out), 44 IRRX (in), 45 EP
part B pins: 17 GND (power), 19 VDD (power), 20 GND (power), 28 GND (power), 41 VDD (power), 42 GND (power)

## MAXQ610J-2519+T
designator U?
16-bit Microcontroller with Infrared Module, 12 MHz Max. Clock Speed, 44-pin TQFN, 0° to + 70° C, Pb-Free, Tape and Reel; DatasheetVersion: 1/02/2010; PackageVersion: revI, 2009; PackageReference: T4477+2; PackageDescription: 44-Pin Thin Quad Flatpack, No Leads, 7 x 7 x 0.75 mm Body, 0.5 mm Pitch, TQFN, Pb-Free; Code_JEDEC: MO-220-WKKD-1; ComponentLink1Description: Manufacturer URL; ComponentLink1URL: www.maxim-ic.com; ComponentLink2Description: Datasheet; ComponentLink2URL: http://datasheets.maxim-ic.com/en/ds/MAXQ610.pdf
footprint T4477+2_N (QFN, 44-Leads, Body 7x7mm, Pitch 0.5mm, Thermal Pad 4.9x4.9mm, IPC Medium Density)
footprint T4477+2_L (QFN, 44-Leads, Body 7x7mm, Pitch 0.5mm, Thermal Pad 4.9x4.9mm, IPC High Density)
footprint T4477+2_M (QFN, 44-Leads, Body 7x7mm, Pitch 0.5mm, Thermal Pad 4.9x4.9mm, IPC Low Density)
part A pins: 1 P0.0/IRTXM (io), 2 P3.0/INT8 (io), 3 P0.1/RX0 (io), 4 P3.1/INT9 (io), 5 P0.2/TX0 (io), 6 P0.3/RX1 (io), 7 P0.4/TX1 (io), 8 P0.5/TBA0/TBA1 (io), 9 P0.6/TBB0 (io), 10 P0.7/TBB1 (io), 11 P1.0/INT0 (io), 12 P1.1/INT1 (io), 13 P1.2/INT2 (io), 14 P1.3/INT3 (io), 15 P3.2/INT10 (io), 16 P3.3/INT11 (io), 18 REGOUT, 21 P1.4/INT4 (io), 22 P1.5/INT5 (io), 23 HFXIN, 24 HFXOUT, 25 P1.6/INT6 (io), 26 P1.7/INT7 (io), 27 P2.0/MOSI (io), 29 P2.1/MISO (io), 30 P3.4/INT12 (io), 31 P3.5/INT13 (io), 32 P2.2/SCLK (io), 33 P2.3/~{SSEL} (io), 34 P2.4/TCK (io), 35 P2.5/TDI (io), 36 P3.6/INT14 (io), 37 P3.7/INT15 (io), 38 P2.6/TMS (io), 39 P2.7/TDO (io), 40 ~{RESET} (io), 43 IRTX (out), 44 IRRX (in), 45 EP
part B pins: 17 GND (power), 19 VDD (power), 20 GND (power), 28 GND (power), 41 VDD (power), 42 GND (power)

## MAXQ612G-0000+
designator U?
16-bit Microcontroller with Infrared Module and Optional USB, 12 MHz Max. Clock Speed, 64-pin LQFP, 0° to + 70° C, Pb-Free; DatasheetVersion: 1/05/2010; PackageVersion: revG, 2009; PackageReference: C64+5; PackageDescription: 64-Pin Low Quad Flatpack, 10 x 10 x 1.4 mm Body, 0.5 mm Pitch, LQFP, Pb-Free; Code_JEDEC: MS-026-BCD; ComponentLink1Description: Manufacturer URL; ComponentLink1URL: www.maxim-ic.com; ComponentLink2Description: Datasheet; ComponentLink2URL: http://datasheets.maxim-ic.com/en/ds/MAXQ612-MAXQ622.pdf
footprint C64+5_N (Thin QFP, 64-Leads, Body 10x10mm, Pitch 0.5mm, IPC Medium Density)
footprint C64+5_L (Thin QFP, 64-Leads, Body 10x10mm, Pitch 0.5mm, IPC High Density)
footprint C64+5_M (Thin QFP, 64-Leads, Body 10x10mm, Pitch 0.5mm, IPC Low Density)
part A pins: 1 IRRX (in), 2 P0.0/IRTXM (io), 3 P0.1/RX0 (io), 4 P0.2/TX0 (io), 5 P0.3/RX1/SDA (io), 6 P0.4/TX1/SCL (io), 7 P0.5/TBA0/TBA1 (io), 9 P0.6/TBB0 (io), 10 P0.7/TBB1 (io), 11 P2.0/MOSI0 (io), 12 P2.1/MISO0 (io), 13 P2.2/SCLK0 (io), 14 P2.3/~{SSEL0} (io), 15 ~{RESET} (io), 16 NC, 17 NC, 18 NC, 19 NC, 20 NC, 21 NC, 23 REG18, 25 HFXIN, 26 HFXOUT, 27 P3.0/INT8 (io), 28 P3.1/INT9 (io), 29 P3.2/INT10 (io), 30 P3.3/INT11 (io), 31 P3.4/INT12 (io), 32 P3.5/INT13 (io), 33 P3.6/INT14 (io), 34 P3.7/INT15 (io), 36 NC, 37 P5.0/MOSI1 (io), 38 P5.1/MISO1 (io), 39 P5.2/SCLK1 (io), 40 P5.3/~{SSEL1} (io), 41 P2.4/TCK (io), 42 P2.5/TDI (io), 43 P2.6/TMS (io), 44 P2.7/TDO (io), 45 P1.0/INT0 (io), 46 NC, 47 NC, 48 P1.1/INT1 (io), 49 P1.2/INT2 (io), 50 P1.3/INT3 (io), 51 P1.4/INT4 (io), 52 P1.5/INT5 (io), 53 P1.6/INT6 (io), 54 P1.7/INT7 (io), 55 P4.0 (io), 56 P4.1 (io), 57 P4.2 (io), 58 P4.3 (io), 59 P4.4 (io), 60 P4.5 (io), 61 P4.6 (io), 62 P4.7 (io), 64 IRTX (out)
part B pins: 8 GND (power), 22 VDD (power), 24 GND (power), 35 GND (power), 63 GND (power)

## MAXQ612G-UEI+
designator U?
16-bit Microcontroller with Infrared Module and Optional USB, 12 MHz Max. Clock Speed, 64-pin LQFP, 0° to + 70° C, Pb-Free; DatasheetVersion: 1/05/2010; PackageVersion: revG, 2009; PackageReference: C64+5; PackageDescription: 64-Pin Low Quad Flatpack, 10 x 10 x 1.4 mm Body, 0.5 mm Pitch, LQFP, Pb-Free; Code_JEDEC: MS-026-BCD; ComponentLink1Description: Manufacturer URL; ComponentLink1URL: www.maxim-ic.com; ComponentLink2Description: Datasheet; ComponentLink2URL: http://datasheets.maxim-ic.com/en/ds/MAXQ612-MAXQ622.pdf
footprint C64+5_N (Thin QFP, 64-Leads, Body 10x10mm, Pitch 0.5mm, IPC Medium Density)
footprint C64+5_L (Thin QFP, 64-Leads, Body 10x10mm, Pitch 0.5mm, IPC High Density)
footprint C64+5_M (Thin QFP, 64-Leads, Body 10x10mm, Pitch 0.5mm, IPC Low Density)
part A pins: 1 IRRX (in), 2 P0.0/IRTXM (io), 3 P0.1/RX0 (io), 4 P0.2/TX0 (io), 5 P0.3/RX1/SDA (io), 6 P0.4/TX1/SCL (io), 7 P0.5/TBA0/TBA1 (io), 9 P0.6/TBB0 (io), 10 P0.7/TBB1 (io), 11 P2.0/MOSI0 (io), 12 P2.1/MISO0 (io), 13 P2.2/SCLK0 (io), 14 P2.3/~{SSEL0} (io), 15 ~{RESET} (io), 16 NC, 17 NC, 18 NC, 19 NC, 20 NC, 21 NC, 23 REG18, 25 HFXIN, 26 HFXOUT, 27 P3.0/INT8 (io), 28 P3.1/INT9 (io), 29 P3.2/INT10 (io), 30 P3.3/INT11 (io), 31 P3.4/INT12 (io), 32 P3.5/INT13 (io), 33 P3.6/INT14 (io), 34 P3.7/INT15 (io), 36 NC, 37 P5.0/MOSI1 (io), 38 P5.1/MISO1 (io), 39 P5.2/SCLK1 (io), 40 P5.3/~{SSEL1} (io), 41 P2.4/TCK (io), 42 P2.5/TDI (io), 43 P2.6/TMS (io), 44 P2.7/TDO (io), 45 P1.0/INT0 (io), 46 NC, 47 NC, 48 P1.1/INT1 (io), 49 P1.2/INT2 (io), 50 P1.3/INT3 (io), 51 P1.4/INT4 (io), 52 P1.5/INT5 (io), 53 P1.6/INT6 (io), 54 P1.7/INT7 (io), 55 P4.0 (io), 56 P4.1 (io), 57 P4.2 (io), 58 P4.3 (io), 59 P4.4 (io), 60 P4.5 (io), 61 P4.6 (io), 62 P4.7 (io), 64 IRTX (out)
part B pins: 8 GND (power), 22 VDD (power), 24 GND (power), 35 GND (power), 63 GND (power)

## MAXQ612J-0000+
designator U?
16-bit Microcontroller with Infrared Module and Optional USB, 12 MHz Max. Clock Speed, 44-pin TQFN, 0° to + 70° C, Pb-Free; DatasheetVersion: 1/05/2010; PackageVersion: revI, 2009; PackageReference: T4477+2; PackageDescription: 44-Pin Thin Quad Flatpack, No Leads, 7 x 7 x 0.75 mm Body, 0.5 mm Pitch, TQFN, Pb-Free; Code_JEDEC: MO-220-WKKD-1; ComponentLink1Description: Manufacturer URL; ComponentLink1URL: www.maxim-ic.com; ComponentLink2Description: Datasheet; ComponentLink2URL: http://datasheets.maxim-ic.com/en/ds/MAXQ612-MAXQ622.pdf
footprint T4477+2_N (QFN, 44-Leads, Body 7x7mm, Pitch 0.5mm, Thermal Pad 4.9x4.9mm, IPC Medium Density)
footprint T4477+2_L (QFN, 44-Leads, Body 7x7mm, Pitch 0.5mm, Thermal Pad 4.9x4.9mm, IPC High Density)
footprint T4477+2_M (QFN, 44-Leads, Body 7x7mm, Pitch 0.5mm, Thermal Pad 4.9x4.9mm, IPC Low Density)
part A pins: 1 P0.1/RX0 (io), 2 P0.2/TX0 (io), 3 P0.3/RX1/SDA (io), 4 P0.4/TX1/SCL (io), 5 P0.5/TBA0/TBA1 (io), 6 P0.6/TBB0 (io), 7 P0.7/TBB1 (io), 8 P2.0/MOSI0 (io), 9 P2.1/MISO0 (io), 10 P2.2/SCLK0 (io), 11 P2.3/~{SSEL0} (io), 12 ~{RESET} (io), 14 REG18, 16 HFXIN, 17 HFXOUT, 18 P3.0/INT8 (io), 19 P3.1/INT9 (io), 20 P3.2/INT10 (io), 21 P3.3/INT11 (io), 22 P3.4/INT12 (io), 23 P3.5/INT13 (io), 24 P3.6/INT14 (io), 25 P3.7/INT15 (io), 26 NC, 27 NC, 29 P2.4/TCK (io), 30 P2.5/TDI (io), 31 P2.6/TMS (io), 32 P2.7/TDO (io), 33 P1.0/INT0 (io), 34 P1.1/INT1 (io), 35 P1.2/INT2 (io), 36 P1.3/INT3 (io), 37 P1.4/INT4 (io), 38 P1.5/INT5 (io), 39 P1.6/INT6 (io), 40 P1.7/INT7 (io), 42 IRTX (out), 43 IRRX (in), 44 P0.0/IRTXM (io), 45 EP
part B pins: 13 VDD (power), 15 GND (power), 28 GND (power), 41 GND (power)

## MAXQ612J-UEI+
designator U?
16-bit Microcontroller with Infrared Module and Optional USB, 12 MHz Max. Clock Speed, 44-pin TQFN, 0° to + 70° C, Pb-Free; DatasheetVersion: 1/05/2010; PackageVersion: revI, 2009; PackageReference: T4477+2; PackageDescription: 44-Pin Thin Quad Flatpack, No Leads, 7 x 7 x 0.75 mm Body, 0.5 mm Pitch, TQFN, Pb-Free; Code_JEDEC: MO-220-WKKD-1; ComponentLink1Description: Manufacturer URL; ComponentLink1URL: www.maxim-ic.com; ComponentLink2Description: Datasheet; ComponentLink2URL: http://datasheets.maxim-ic.com/en/ds/MAXQ612-MAXQ622.pdf
footprint T4477+2_N (QFN, 44-Leads, Body 7x7mm, Pitch 0.5mm, Thermal Pad 4.9x4.9mm, IPC Medium Density)
footprint T4477+2_L (QFN, 44-Leads, Body 7x7mm, Pitch 0.5mm, Thermal Pad 4.9x4.9mm, IPC High Density)
footprint T4477+2_M (QFN, 44-Leads, Body 7x7mm, Pitch 0.5mm, Thermal Pad 4.9x4.9mm, IPC Low Density)
part A pins: 1 P0.1/RX0 (io), 2 P0.2/TX0 (io), 3 P0.3/RX1/SDA (io), 4 P0.4/TX1/SCL (io), 5 P0.5/TBA0/TBA1 (io), 6 P0.6/TBB0 (io), 7 P0.7/TBB1 (io), 8 P2.0/MOSI0 (io), 9 P2.1/MISO0 (io), 10 P2.2/SCLK0 (io), 11 P2.3/~{SSEL0} (io), 12 ~{RESET} (io), 14 REG18, 16 HFXIN, 17 HFXOUT, 18 P3.0/INT8 (io), 19 P3.1/INT9 (io), 20 P3.2/INT10 (io), 21 P3.3/INT11 (io), 22 P3.4/INT12 (io), 23 P3.5/INT13 (io), 24 P3.6/INT14 (io), 25 P3.7/INT15 (io), 26 NC, 27 NC, 29 P2.4/TCK (io), 30 P2.5/TDI (io), 31 P2.6/TMS (io), 32 P2.7/TDO (io), 33 P1.0/INT0 (io), 34 P1.1/INT1 (io), 35 P1.2/INT2 (io), 36 P1.3/INT3 (io), 37 P1.4/INT4 (io), 38 P1.5/INT5 (io), 39 P1.6/INT6 (io), 40 P1.7/INT7 (io), 42 IRTX (out), 43 IRRX (in), 44 P0.0/IRTXM (io), 45 EP
part B pins: 13 VDD (power), 15 GND (power), 28 GND (power), 41 GND (power)

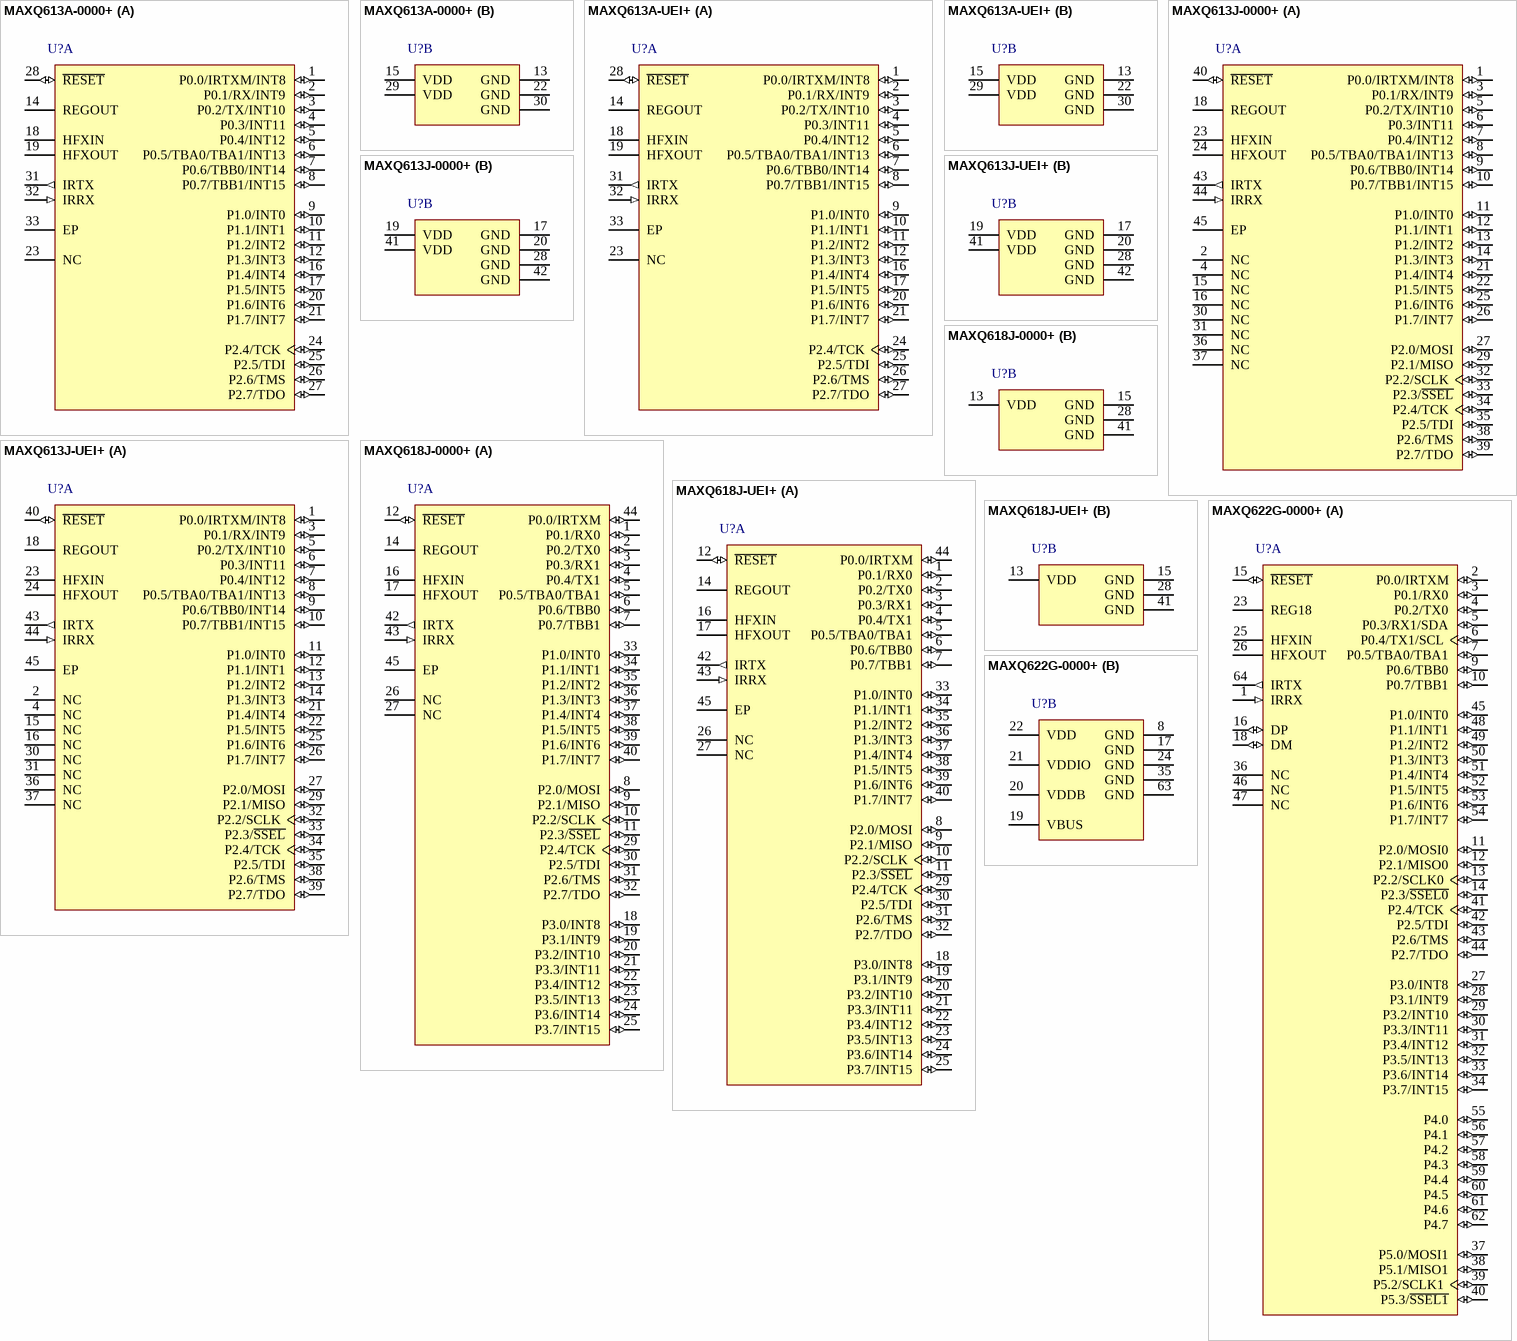
[diagram p19: symbols MAXQ613A-0000+ to MAXQ622G-0000+]

## MAXQ613A-0000+
designator U?
16-bit Microcontroller with Infrared Module, 12 MHz Max. Clock Speed, 32-pin TQFN, 0° to + 70° C, Pb-Free; DatasheetVersion: 1/01/2011; PackageVersion: revO, 2011; PackageReference: T3255+3; PackageDescription: 32-Pin Thin Quad Flatpack, No Leads, 5 x 5 x 0.75 mm Body, 0.5 mm Pitch, TQFN, Pb-Free; Code_JEDEC: MO-220-WHHD-2; ComponentLink1Description: Manufacturer URL; ComponentLink1URL: www.maxim-ic.com; ComponentLink2Description: Datasheet; ComponentLink2URL: http://datasheets.maxim-ic.com/en/ds/MAXQ613.pdf
footprint T3255+3_N (QFN, 32-Leads, Body 5x5mm, Pitch 0.5mm, Thermal Pad 3.2x3.2mm, IPC Medium Density)
footprint T3255+3_L (QFN, 32-Leads, Body 5x5mm, Pitch 0.5mm, Thermal Pad 3.2x3.2mm, IPC High Density)
footprint T3255+3_M (QFN, 32-Leads, Body 5x5mm, Pitch 0.5mm, Thermal Pad 3.2x3.2mm, IPC Low Density)
part A pins: 1 P0.0/IRTXM/INT8 (io), 2 P0.1/RX/INT9 (io), 3 P0.2/TX/INT10 (io), 4 P0.3/INT11 (io), 5 P0.4/INT12 (io), 6 P0.5/TBA0/TBA1/INT13 (io), 7 P0.6/TBB0/INT14 (io), 8 P0.7/TBB1/INT15 (io), 9 P1.0/INT0 (io), 10 P1.1/INT1 (io), 11 P1.2/INT2 (io), 12 P1.3/INT3 (io), 14 REGOUT, 16 P1.4/INT4 (io), 17 P1.5/INT5 (io), 18 HFXIN, 19 HFXOUT, 20 P1.6/INT6 (io), 21 P1.7/INT7 (io), 23 NC, 24 P2.4/TCK (io), 25 P2.5/TDI (io), 26 P2.6/TMS (io), 27 P2.7/TDO (io), 28 ~{RESET} (io), 31 IRTX (out), 32 IRRX (in), 33 EP
part B pins: 13 GND (power), 15 VDD (power), 22 GND (power), 29 VDD (power), 30 GND (power)

## MAXQ613A-UEI+
designator U?
16-bit Microcontroller with Infrared Module, 12 MHz Max. Clock Speed, 32-pin TQFN, 0° to + 70° C, Pb-Free; DatasheetVersion: 1/01/2011; PackageVersion: revO, 2011; PackageReference: T3255+3; PackageDescription: 32-Pin Thin Quad Flatpack, No Leads, 5 x 5 x 0.75 mm Body, 0.5 mm Pitch, TQFN, Pb-Free; Code_JEDEC: MO-220-WHHD-2; ComponentLink1Description: Manufacturer URL; ComponentLink1URL: www.maxim-ic.com; ComponentLink2Description: Datasheet; ComponentLink2URL: http://datasheets.maxim-ic.com/en/ds/MAXQ613.pdf
footprint T3255+3_N (QFN, 32-Leads, Body 5x5mm, Pitch 0.5mm, Thermal Pad 3.2x3.2mm, IPC Medium Density)
footprint T3255+3_L (QFN, 32-Leads, Body 5x5mm, Pitch 0.5mm, Thermal Pad 3.2x3.2mm, IPC High Density)
footprint T3255+3_M (QFN, 32-Leads, Body 5x5mm, Pitch 0.5mm, Thermal Pad 3.2x3.2mm, IPC Low Density)
part A pins: 1 P0.0/IRTXM/INT8 (io), 2 P0.1/RX/INT9 (io), 3 P0.2/TX/INT10 (io), 4 P0.3/INT11 (io), 5 P0.4/INT12 (io), 6 P0.5/TBA0/TBA1/INT13 (io), 7 P0.6/TBB0/INT14 (io), 8 P0.7/TBB1/INT15 (io), 9 P1.0/INT0 (io), 10 P1.1/INT1 (io), 11 P1.2/INT2 (io), 12 P1.3/INT3 (io), 14 REGOUT, 16 P1.4/INT4 (io), 17 P1.5/INT5 (io), 18 HFXIN, 19 HFXOUT, 20 P1.6/INT6 (io), 21 P1.7/INT7 (io), 23 NC, 24 P2.4/TCK (io), 25 P2.5/TDI (io), 26 P2.6/TMS (io), 27 P2.7/TDO (io), 28 ~{RESET} (io), 31 IRTX (out), 32 IRRX (in), 33 EP
part B pins: 13 GND (power), 15 VDD (power), 22 GND (power), 29 VDD (power), 30 GND (power)

## MAXQ613J-0000+
designator U?
16-bit Microcontroller with Infrared Module, 12 MHz Max. Clock Speed, 44-pin TQFN, 0° to + 70° C, Pb-Free; DatasheetVersion: 1/01/2011; PackageVersion: revI, 2009; PackageReference: T4477+2; PackageDescription: 44-Pin Thin Quad Flatpack, No Leads, 7 x 7 x 0.75 mm Body, 0.5 mm Pitch, TQFN, Pb-Free; Code_JEDEC: MO-220-WKKD-1; ComponentLink1Description: Manufacturer URL; ComponentLink1URL: www.maxim-ic.com; ComponentLink2Description: Datasheet; ComponentLink2URL: http://datasheets.maxim-ic.com/en/ds/MAXQ613.pdf
footprint T4477+2_N (QFN, 44-Leads, Body 7x7mm, Pitch 0.5mm, Thermal Pad 4.9x4.9mm, IPC Medium Density)
footprint T4477+2_L (QFN, 44-Leads, Body 7x7mm, Pitch 0.5mm, Thermal Pad 4.9x4.9mm, IPC High Density)
footprint T4477+2_M (QFN, 44-Leads, Body 7x7mm, Pitch 0.5mm, Thermal Pad 4.9x4.9mm, IPC Low Density)
part A pins: 1 P0.0/IRTXM/INT8 (io), 2 NC, 3 P0.1/RX/INT9 (io), 4 NC, 5 P0.2/TX/INT10 (io), 6 P0.3/INT11 (io), 7 P0.4/INT12 (io), 8 P0.5/TBA0/TBA1/INT13 (io), 9 P0.6/TBB0/INT14 (io), 10 P0.7/TBB1/INT15 (io), 11 P1.0/INT0 (io), 12 P1.1/INT1 (io), 13 P1.2/INT2 (io), 14 P1.3/INT3 (io), 15 NC, 16 NC, 18 REGOUT, 21 P1.4/INT4 (io), 22 P1.5/INT5 (io), 23 HFXIN, 24 HFXOUT, 25 P1.6/INT6 (io), 26 P1.7/INT7 (io), 27 P2.0/MOSI (io), 29 P2.1/MISO (io), 30 NC, 31 NC, 32 P2.2/SCLK (io), 33 P2.3/~{SSEL} (io), 34 P2.4/TCK (io), 35 P2.5/TDI (io), 36 NC, 37 NC, 38 P2.6/TMS (io), 39 P2.7/TDO (io), 40 ~{RESET} (io), 43 IRTX (out), 44 IRRX (in), 45 EP
part B pins: 17 GND (power), 19 VDD (power), 20 GND (power), 28 GND (power), 41 VDD (power), 42 GND (power)

## MAXQ613J-UEI+
designator U?
16-bit Microcontroller with Infrared Module, 12 MHz Max. Clock Speed, 44-pin TQFN, 0° to + 70° C, Pb-Free; DatasheetVersion: 1/01/2011; PackageVersion: revI, 2009; PackageReference: T4477+2; PackageDescription: 44-Pin Thin Quad Flatpack, No Leads, 7 x 7 x 0.75 mm Body, 0.5 mm Pitch, TQFN, Pb-Free; Code_JEDEC: MO-220-WKKD-1; ComponentLink1Description: Manufacturer URL; ComponentLink1URL: www.maxim-ic.com; ComponentLink2Description: Datasheet; ComponentLink2URL: http://datasheets.maxim-ic.com/en/ds/MAXQ613.pdf
footprint T4477+2_N (QFN, 44-Leads, Body 7x7mm, Pitch 0.5mm, Thermal Pad 4.9x4.9mm, IPC Medium Density)
footprint T4477+2_L (QFN, 44-Leads, Body 7x7mm, Pitch 0.5mm, Thermal Pad 4.9x4.9mm, IPC High Density)
footprint T4477+2_M (QFN, 44-Leads, Body 7x7mm, Pitch 0.5mm, Thermal Pad 4.9x4.9mm, IPC Low Density)
part A pins: 1 P0.0/IRTXM/INT8 (io), 2 NC, 3 P0.1/RX/INT9 (io), 4 NC, 5 P0.2/TX/INT10 (io), 6 P0.3/INT11 (io), 7 P0.4/INT12 (io), 8 P0.5/TBA0/TBA1/INT13 (io), 9 P0.6/TBB0/INT14 (io), 10 P0.7/TBB1/INT15 (io), 11 P1.0/INT0 (io), 12 P1.1/INT1 (io), 13 P1.2/INT2 (io), 14 P1.3/INT3 (io), 15 NC, 16 NC, 18 REGOUT, 21 P1.4/INT4 (io), 22 P1.5/INT5 (io), 23 HFXIN, 24 HFXOUT, 25 P1.6/INT6 (io), 26 P1.7/INT7 (io), 27 P2.0/MOSI (io), 29 P2.1/MISO (io), 30 NC, 31 NC, 32 P2.2/SCLK (io), 33 P2.3/~{SSEL} (io), 34 P2.4/TCK (io), 35 P2.5/TDI (io), 36 NC, 37 NC, 38 P2.6/TMS (io), 39 P2.7/TDO (io), 40 ~{RESET} (io), 43 IRTX (out), 44 IRRX (in), 45 EP
part B pins: 17 GND (power), 19 VDD (power), 20 GND (power), 28 GND (power), 41 VDD (power), 42 GND (power)

## MAXQ618J-0000+
designator U?
16-bit Microcontroller with Infrared Module, 12 MHz Max. Clock Speed, 44-pin TQFN, 0° to + 70° C, Pb-Free; DatasheetVersion: 1/03/2011; PackageVersion: revI, 2009; PackageReference: T4477+2; PackageDescription: 44-Pin Thin Quad Flatpack, No Leads, 7 x 7 x 0.75 mm Body, 0.5 mm Pitch, TQFN, Pb-Free; Code_JEDEC: MO-220-WKKD-1; ComponentLink1Description: Manufacturer URL; ComponentLink1URL: www.maxim-ic.com; ComponentLink2Description: Datasheet; ComponentLink2URL: http://datasheets.maxim-ic.com/en/ds/MAXQ618.pdf
footprint T4477+2_N (QFN, 44-Leads, Body 7x7mm, Pitch 0.5mm, Thermal Pad 4.9x4.9mm, IPC Medium Density)
footprint T4477+2_L (QFN, 44-Leads, Body 7x7mm, Pitch 0.5mm, Thermal Pad 4.9x4.9mm, IPC High Density)
footprint T4477+2_M (QFN, 44-Leads, Body 7x7mm, Pitch 0.5mm, Thermal Pad 4.9x4.9mm, IPC Low Density)
part A pins: 1 P0.1/RX0 (io), 2 P0.2/TX0 (io), 3 P0.3/RX1 (io), 4 P0.4/TX1 (io), 5 P0.5/TBA0/TBA1 (io), 6 P0.6/TBB0 (io), 7 P0.7/TBB1 (io), 8 P2.0/MOSI (io), 9 P2.1/MISO (io), 10 P2.2/SCLK (io), 11 P2.3/~{SSEL} (io), 12 ~{RESET} (io), 14 REGOUT, 16 HFXIN, 17 HFXOUT, 18 P3.0/INT8 (io), 19 P3.1/INT9 (io), 20 P3.2/INT10 (io), 21 P3.3/INT11 (io), 22 P3.4/INT12 (io), 23 P3.5/INT13 (io), 24 P3.6/INT14 (io), 25 P3.7/INT15 (io), 26 NC, 27 NC, 29 P2.4/TCK (io), 30 P2.5/TDI (io), 31 P2.6/TMS (io), 32 P2.7/TDO (io), 33 P1.0/INT0 (io), 34 P1.1/INT1 (io), 35 P1.2/INT2 (io), 36 P1.3/INT3 (io), 37 P1.4/INT4 (io), 38 P1.5/INT5 (io), 39 P1.6/INT6 (io), 40 P1.7/INT7 (io), 42 IRTX (out), 43 IRRX (in), 44 P0.0/IRTXM (io), 45 EP
part B pins: 13 VDD (power), 15 GND (power), 28 GND (power), 41 GND (power)

## MAXQ618J-UEI+
designator U?
16-bit Microcontroller with Infrared Module, 12 MHz Max. Clock Speed, 44-pin TQFN, 0° to + 70° C, Pb-Free; DatasheetVersion: 1/03/2011; PackageVersion: revI, 2009; PackageReference: T4477+2; PackageDescription: 44-Pin Thin Quad Flatpack, No Leads, 7 x 7 x 0.75 mm Body, 0.5 mm Pitch, TQFN, Pb-Free; Code_JEDEC: MO-220-WKKD-1; ComponentLink1Description: Manufacturer URL; ComponentLink1URL: www.maxim-ic.com; ComponentLink2Description: Datasheet; ComponentLink2URL: http://datasheets.maxim-ic.com/en/ds/MAXQ618.pdf
footprint T4477+2_N (QFN, 44-Leads, Body 7x7mm, Pitch 0.5mm, Thermal Pad 4.9x4.9mm, IPC Medium Density)
footprint T4477+2_L (QFN, 44-Leads, Body 7x7mm, Pitch 0.5mm, Thermal Pad 4.9x4.9mm, IPC High Density)
footprint T4477+2_M (QFN, 44-Leads, Body 7x7mm, Pitch 0.5mm, Thermal Pad 4.9x4.9mm, IPC Low Density)
part A pins: 1 P0.1/RX0 (io), 2 P0.2/TX0 (io), 3 P0.3/RX1 (io), 4 P0.4/TX1 (io), 5 P0.5/TBA0/TBA1 (io), 6 P0.6/TBB0 (io), 7 P0.7/TBB1 (io), 8 P2.0/MOSI (io), 9 P2.1/MISO (io), 10 P2.2/SCLK (io), 11 P2.3/~{SSEL} (io), 12 ~{RESET} (io), 14 REGOUT, 16 HFXIN, 17 HFXOUT, 18 P3.0/INT8 (io), 19 P3.1/INT9 (io), 20 P3.2/INT10 (io), 21 P3.3/INT11 (io), 22 P3.4/INT12 (io), 23 P3.5/INT13 (io), 24 P3.6/INT14 (io), 25 P3.7/INT15 (io), 26 NC, 27 NC, 29 P2.4/TCK (io), 30 P2.5/TDI (io), 31 P2.6/TMS (io), 32 P2.7/TDO (io), 33 P1.0/INT0 (io), 34 P1.1/INT1 (io), 35 P1.2/INT2 (io), 36 P1.3/INT3 (io), 37 P1.4/INT4 (io), 38 P1.5/INT5 (io), 39 P1.6/INT6 (io), 40 P1.7/INT7 (io), 42 IRTX (out), 43 IRRX (in), 44 P0.0/IRTXM (io), 45 EP
part B pins: 13 VDD (power), 15 GND (power), 28 GND (power), 41 GND (power)